# Altium schematic symbol library MCU_CPU.SchLib: 55 symbols (part 1 of 2)
Pins are listed as number, name and electrical type; pins without a type are passive.

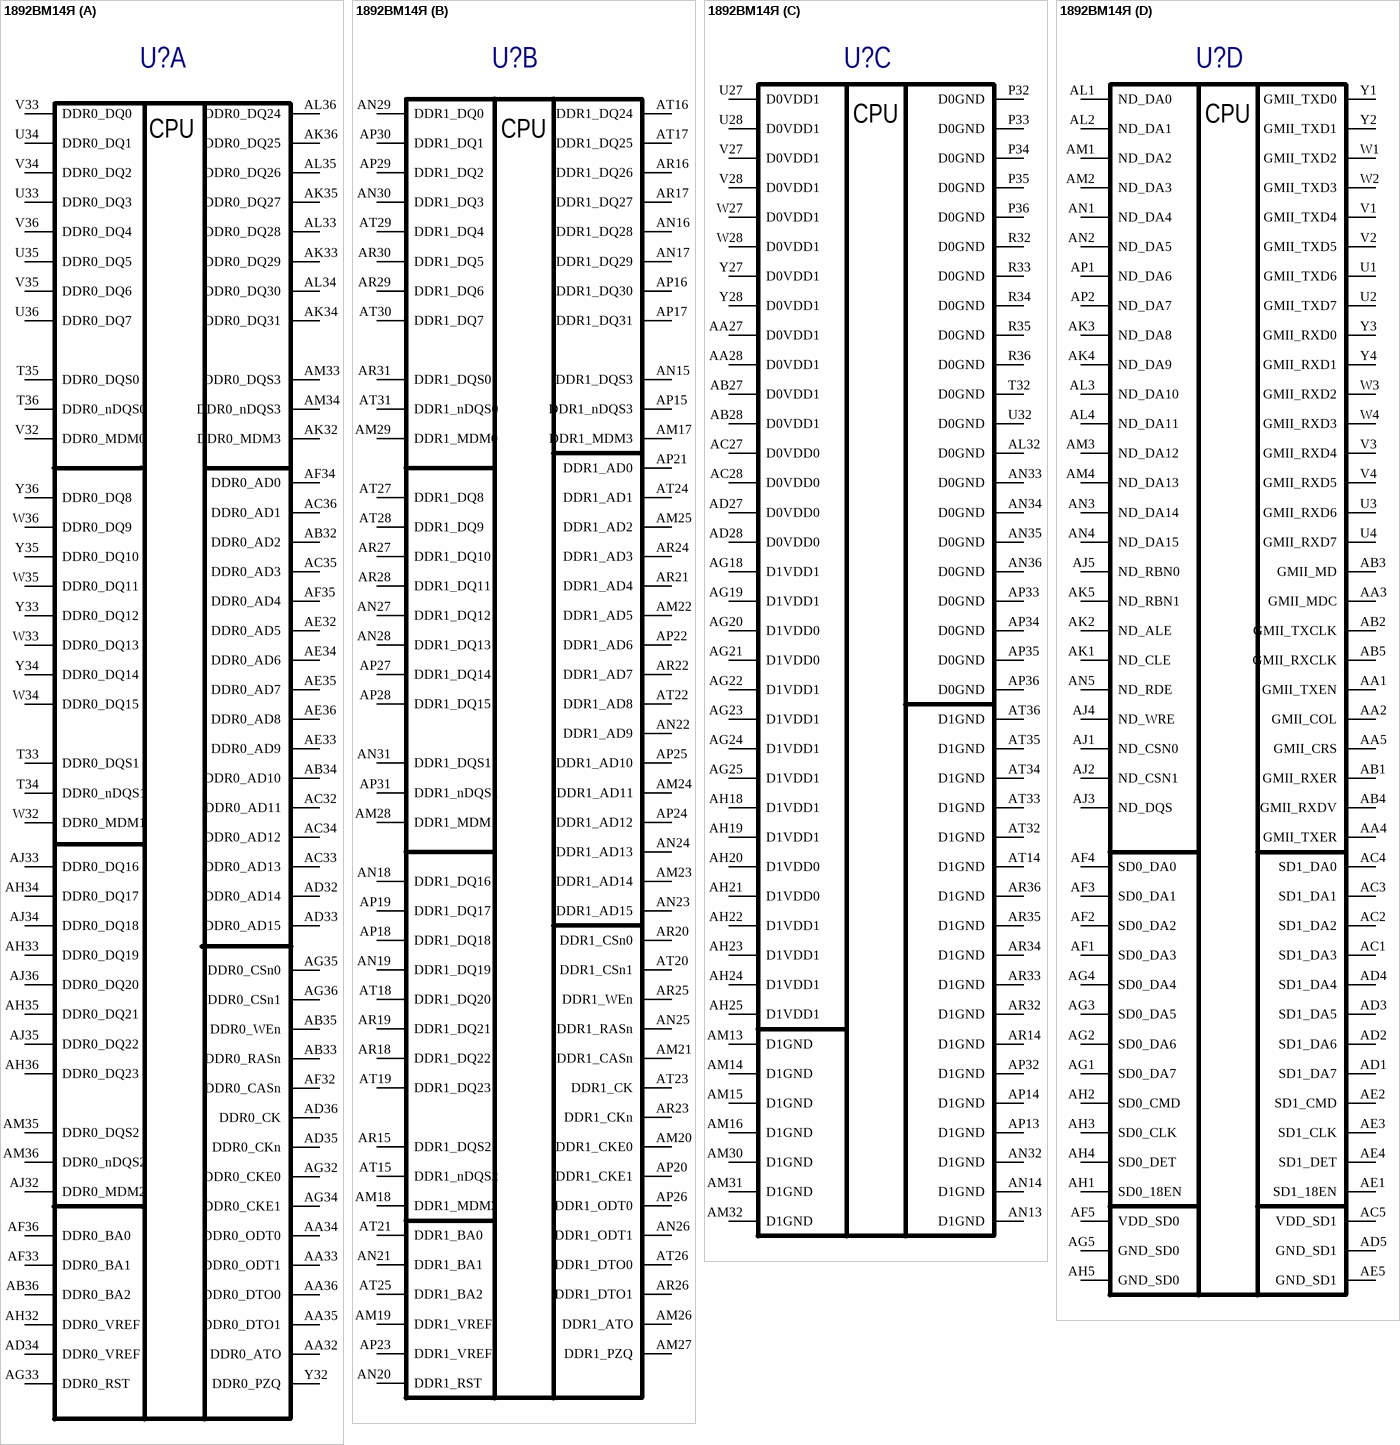
[diagram p0: symbol 1892ВМ14Я]

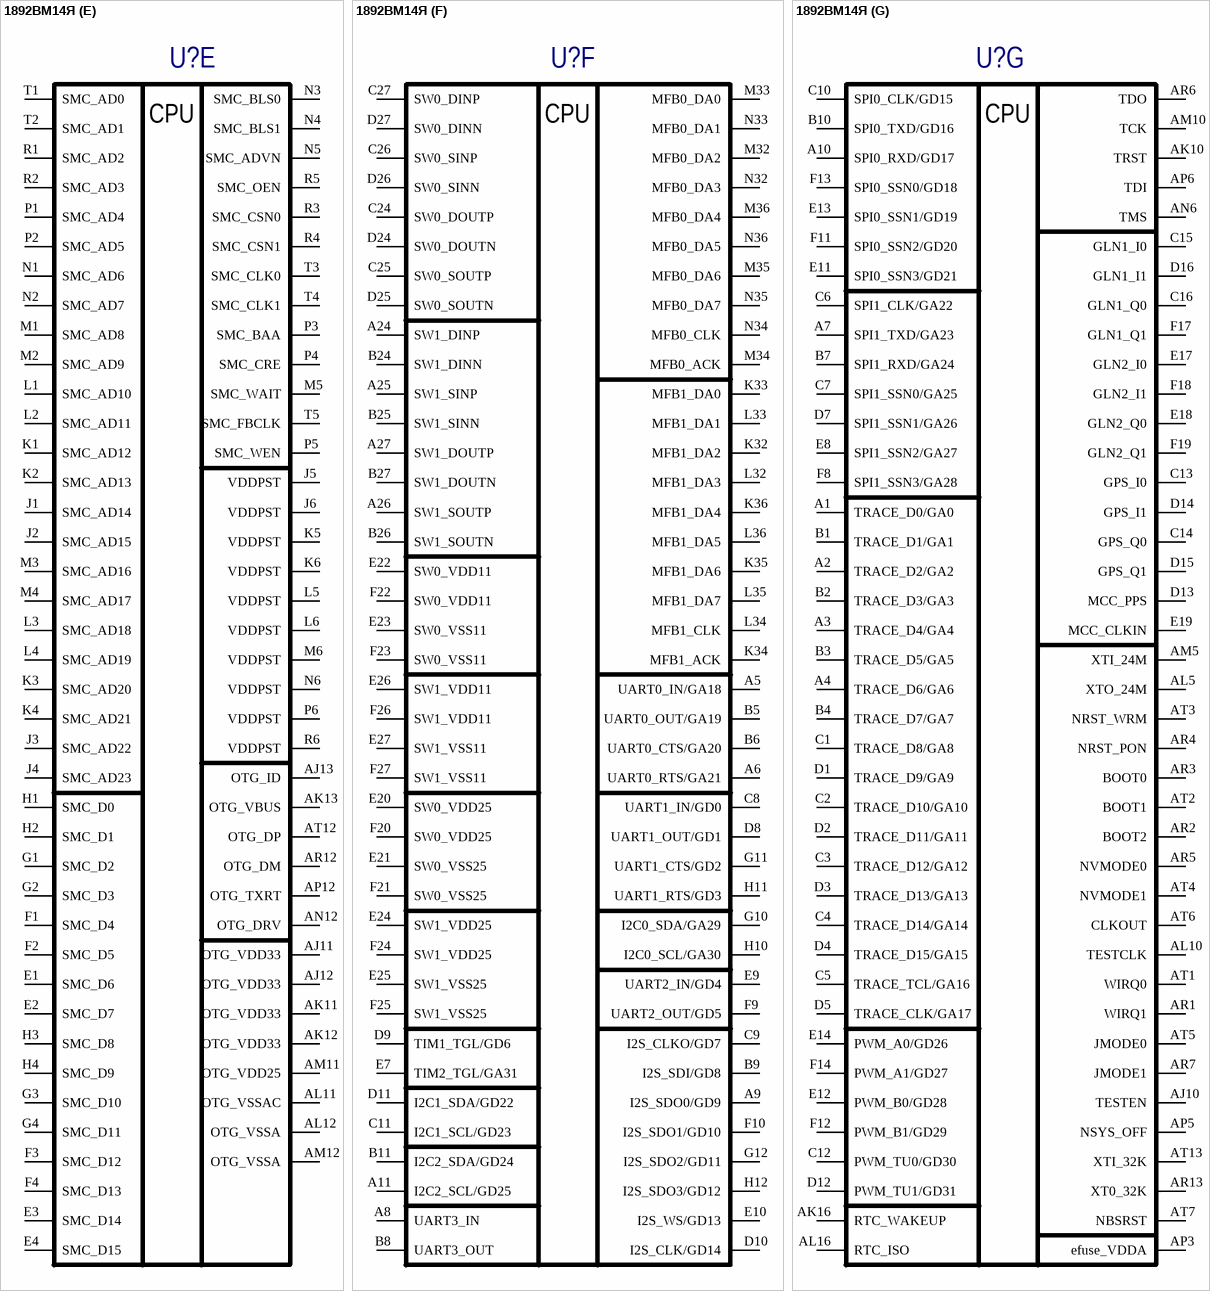
[diagram p1: symbol 1892ВМ14Я]

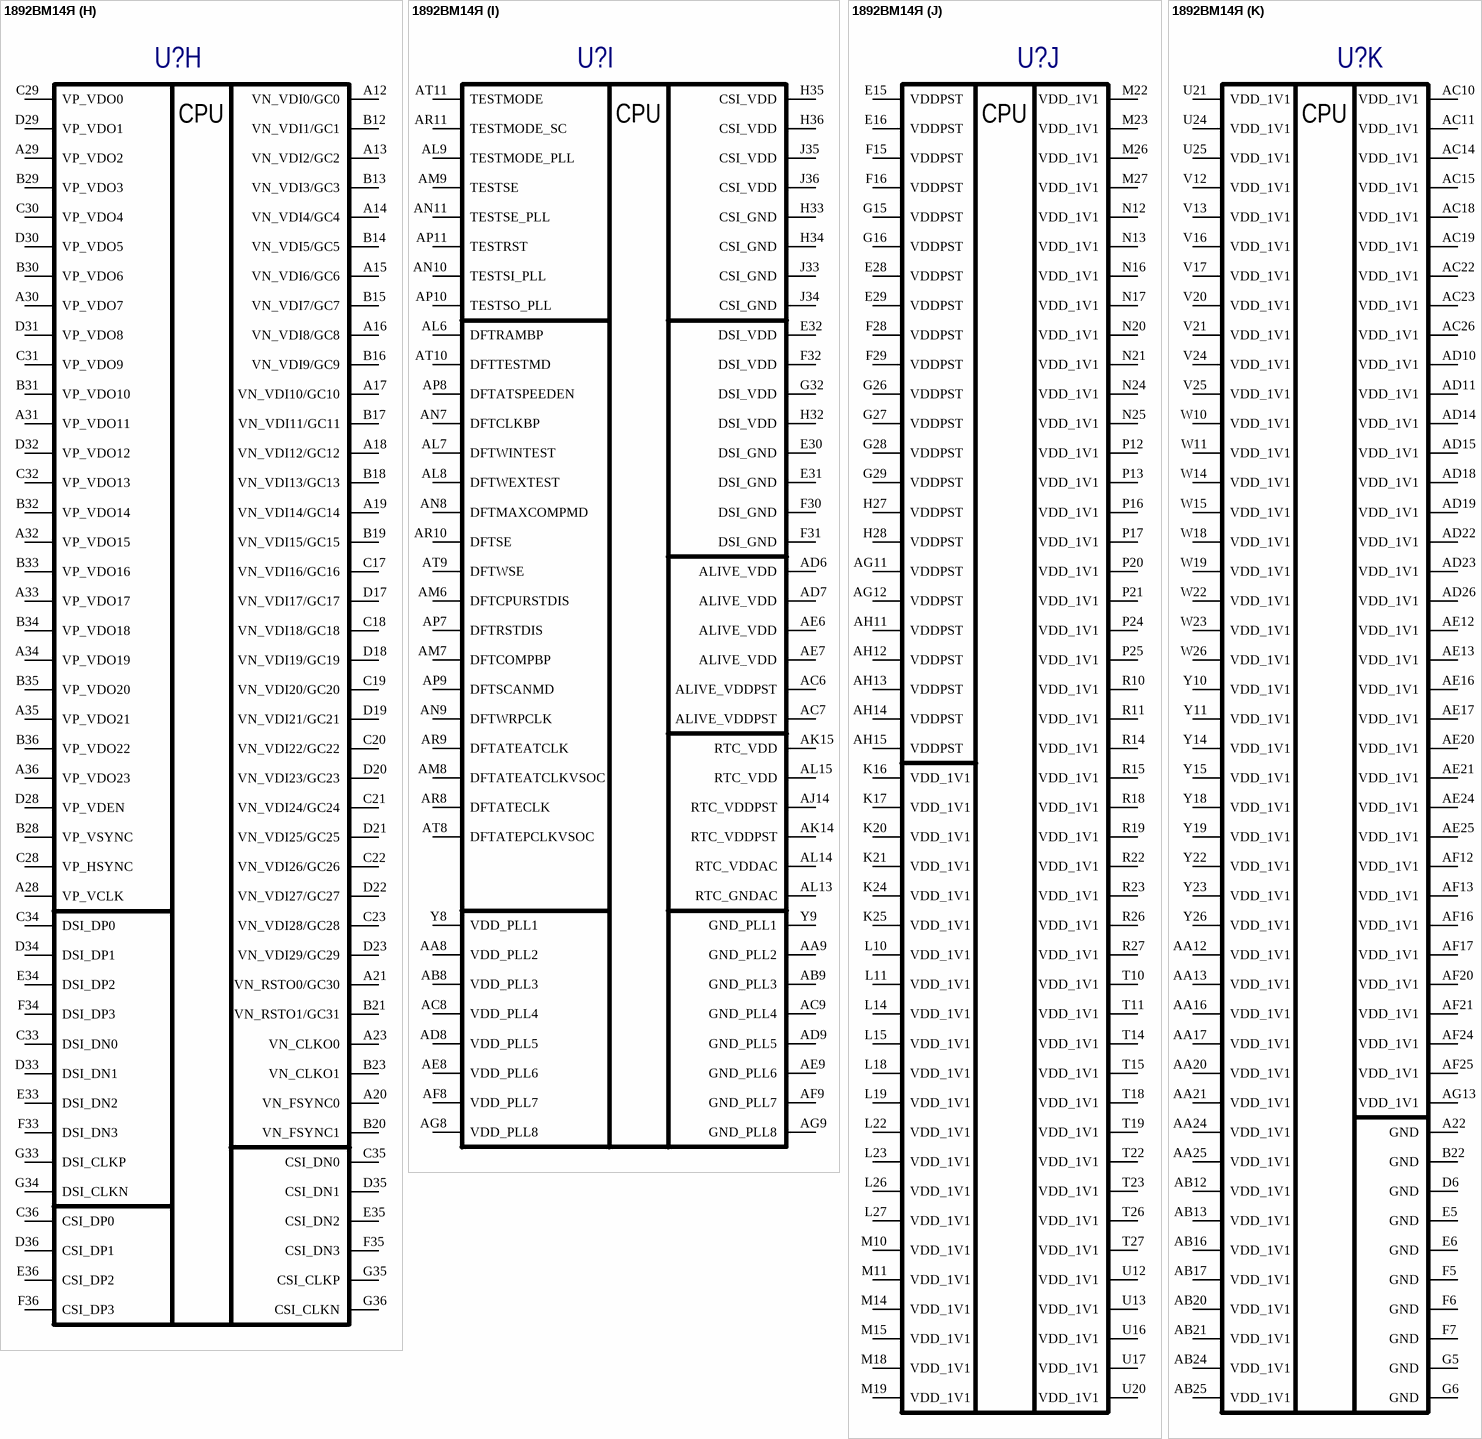
[diagram p2: symbol 1892ВМ14Я]

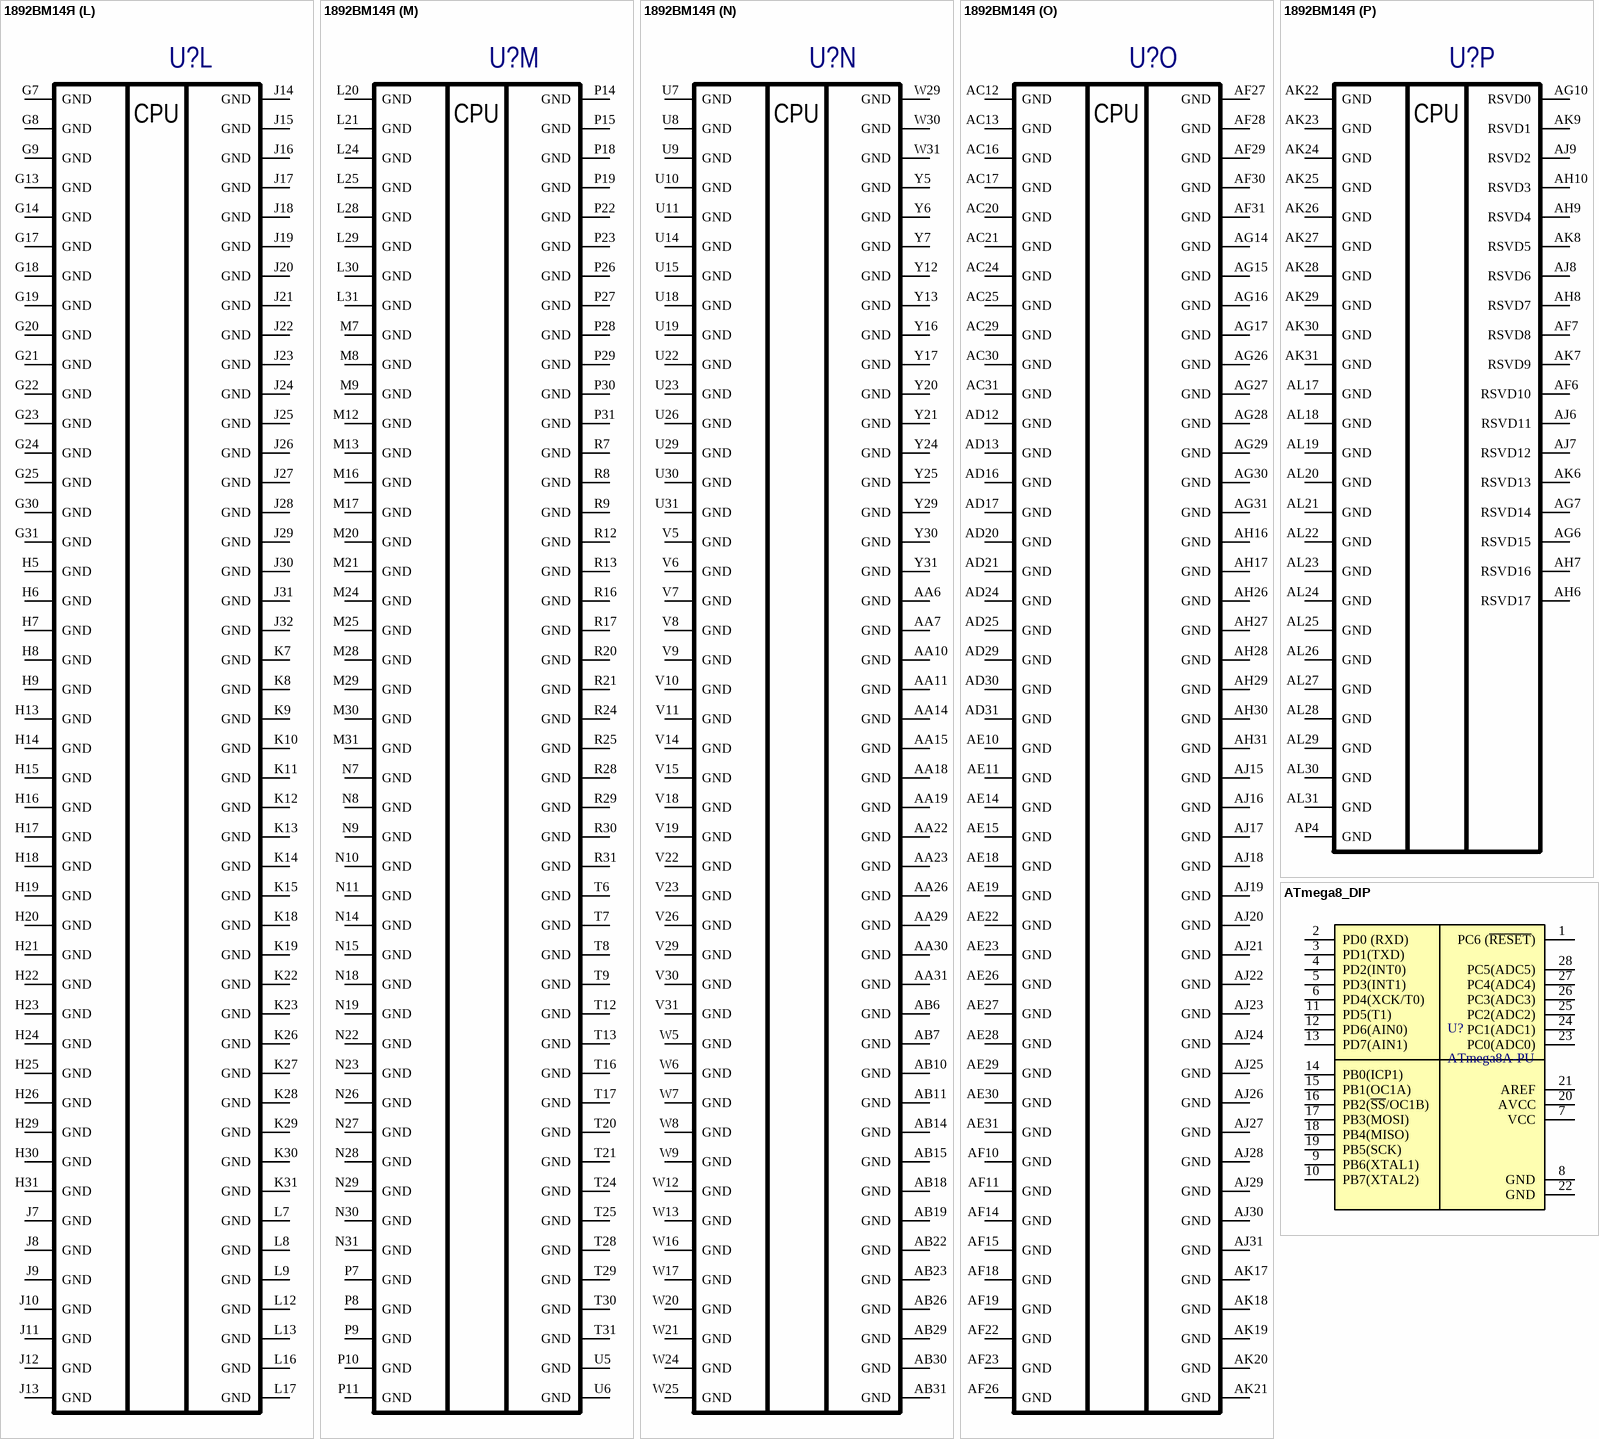
[diagram p3: symbols 1892ВМ14Я to ATmega8_DIP]

## 1892ВМ14Я
designator U?  (value not drawn)
Процессор; ComponentLink1Description: Datasheet
footprint BGA1296(36x36pin_19x19mm)
part A pins: AA32 DDR0_ATO "Byte Low Enable", AA33 DDR0_ODT1 "Byte Low Enable", AA34 DDR0_ODT0 "Byte Low Enable", AA35 DDR0_DTO1 "Byte Low Enable", AA36 DDR0_DTO0 "Byte Low Enable", AB32 DDR0_AD2, AB33 DDR0_RASn "Byte Low Enable", AB34 DDR0_AD10 "Output Enables", AB35 DDR0_WEn "Byte Low Enable", AB36 DDR0_BA2 "Byte Low Enable", AC32 DDR0_AD11 "Write Enable", AC33 DDR0_AD13 "Byte Low Enable", AC34 DDR0_AD12 "Byte High Enable", AC35 DDR0_AD3, AC36 DDR0_AD1, AD32 DDR0_AD14 "Byte Low Enable", AD33 DDR0_AD15 "Byte Low Enable", AD34 DDR0_VREF "Byte Low Enable", AD35 DDR0_CKn "Byte Low Enable", AD36 DDR0_CK "Byte Low Enable", AE32 DDR0_AD5, AE33 DDR0_AD9, AE34 DDR0_AD6, AE35 DDR0_AD7, AE36 DDR0_AD8, AF32 DDR0_CASn "Byte Low Enable", AF33 DDR0_BA1 "Byte Low Enable", AF34 DDR0_AD0, AF35 DDR0_AD4, AF36 DDR0_BA0 "Byte Low Enable", AG32 DDR0_CKE0 "Byte Low Enable", AG33 DDR0_RST "Byte Low Enable", AG34 DDR0_CKE1 "Byte Low Enable", AG35 DDR0_CSn0 "Byte Low Enable", AG36 DDR0_CSn1 "Byte Low Enable", AH32 DDR0_VREF "Byte Low Enable", AH33 DDR0_DQ19, AH34 DDR0_DQ17, AH35 DDR0_DQ21, AH36 DDR0_DQ23, AJ32 DDR0_MDM2 "Byte Low Enable", AJ33 DDR0_DQ16, AJ34 DDR0_DQ18, AJ35 DDR0_DQ22, AJ36 DDR0_DQ20, AK32 DDR0_MDM3 "Byte Low Enable", AK33 DDR0_DQ29, AK34 DDR0_DQ31, AK35 DDR0_DQ27, AK36 DDR0_DQ25, AL33 DDR0_DQ28, AL34 DDR0_DQ30, AL35 DDR0_DQ26, AL36 DDR0_DQ24, AM33 DDR0_DQS3, AM34 DDR0_nDQS3, AM35 DDR0_DQS2, AM36 DDR0_nDQS2, T33 DDR0_DQS1, T34 DDR0_nDQS1, T35 DDR0_DQS0, T36 DDR0_nDQS0, U33 DDR0_DQ3, U34 DDR0_DQ1, U35 DDR0_DQ5, U36 DDR0_DQ7, V32 DDR0_MDM0 "Byte Low Enable", V33 DDR0_DQ0, V34 DDR0_DQ2, V35 DDR0_DQ6, V36 DDR0_DQ4, W32 DDR0_MDM1 "Byte Low Enable", W33 DDR0_DQ13, W34 DDR0_DQ15, W35 DDR0_DQ11, W36 DDR0_DQ9, Y32 DDR0_PZQ "Byte Low Enable", Y33 DDR0_DQ12, Y34 DDR0_DQ14, Y35 DDR0_DQ10, Y36 DDR0_DQ8
part B pins: AM17 DDR1_MDM3 "Byte Low Enable", AM18 DDR1_MDM2 "Byte Low Enable", AM19 DDR1_VREF "Byte Low Enable", AM20 DDR1_CKE0 "Byte Low Enable", AM21 DDR1_CASn "Byte Low Enable", AM22 DDR1_AD5, AM23 DDR1_AD14 "Byte Low Enable", AM24 DDR1_AD11 "Write Enable", AM25 DDR1_AD2, AM26 DDR1_ATO "Byte Low Enable", AM27 DDR1_PZQ "Byte Low Enable", AM28 DDR1_MDM1 "Byte Low Enable", AM29 DDR1_MDM0 "Byte Low Enable", AN15 DDR1_DQS3, AN16 DDR1_DQ28, AN17 DDR1_DQ29, AN18 DDR1_DQ16, AN19 DDR1_DQ19, AN20 DDR1_RST "Byte Low Enable", AN21 DDR1_BA1 "Byte Low Enable", AN22 DDR1_AD9, AN23 DDR1_AD15 "Byte Low Enable", AN24 DDR1_AD13 "Byte Low Enable", AN25 DDR1_RASn "Byte Low Enable", AN26 DDR1_ODT1 "Byte Low Enable", AN27 DDR1_DQ12, AN28 DDR1_DQ13, AN29 DDR1_DQ0, AN30 DDR1_DQ3, AN31 DDR1_DQS1, AP15 DDR1_nDQS3, AP16 DDR1_DQ30, AP17 DDR1_DQ31, AP18 DDR1_DQ18, AP19 DDR1_DQ17, AP20 DDR1_CKE1 "Byte Low Enable", AP21 DDR1_AD0, AP22 DDR1_AD6, AP23 DDR1_VREF "Byte Low Enable", AP24 DDR1_AD12 "Byte High Enable", AP25 DDR1_AD10 "Output Enables", AP26 DDR1_ODT0 "Byte Low Enable", AP27 DDR1_DQ14, AP28 DDR1_DQ15, AP29 DDR1_DQ2, AP30 DDR1_DQ1, AP31 DDR1_nDQS1, AR15 DDR1_DQS2, AR16 DDR1_DQ26, AR17 DDR1_DQ27, AR18 DDR1_DQ22, AR19 DDR1_DQ21, AR20 DDR1_CSn0 "Byte Low Enable", AR21 DDR1_AD4, AR22 DDR1_AD7, AR23 DDR1_CKn "Byte Low Enable", AR24 DDR1_AD3, AR25 DDR1_WEn "Byte Low Enable", AR26 DDR1_DTO1 "Byte Low Enable", AR27 DDR1_DQ10, AR28 DDR1_DQ11, AR29 DDR1_DQ6, AR30 DDR1_DQ5, AR31 DDR1_DQS0, AT15 DDR1_nDQS2, AT16 DDR1_DQ24, AT17 DDR1_DQ25, AT18 DDR1_DQ20, AT19 DDR1_DQ23, AT20 DDR1_CSn1 "Byte Low Enable", AT21 DDR1_BA0 "Byte Low Enable", AT22 DDR1_AD8, AT23 DDR1_CK "Byte Low Enable", AT24 DDR1_AD1, AT25 DDR1_BA2 "Byte Low Enable", AT26 DDR1_DTO0 "Byte Low Enable", AT27 DDR1_DQ8, AT28 DDR1_DQ9, AT29 DDR1_DQ4, AT30 DDR1_DQ7, AT31 DDR1_nDQS0
part C pins: AA27 D0VDD1, AA28 D0VDD1, AB27 D0VDD1, AB28 D0VDD1, AC27 D0VDD0, AC28 D0VDD0, AD27 D0VDD0, AD28 D0VDD0, AG18 D1VDD1, AG19 D1VDD1, AG20 D1VDD0, AG21 D1VDD0, AG22 D1VDD1, AG23 D1VDD1, AG24 D1VDD1, AG25 D1VDD1, AH18 D1VDD1, AH19 D1VDD1, AH20 D1VDD0, AH21 D1VDD0, AH22 D1VDD1, AH23 D1VDD1, AH24 D1VDD1, AH25 D1VDD1, AL32 D0GND, AM13 D1GND, AM14 D1GND, AM15 D1GND, AM16 D1GND, AM30 D1GND, AM31 D1GND, AM32 D1GND, AN13 D1GND, AN14 D1GND, AN32 D1GND, AN33 D0GND, AN34 D0GND, AN35 D0GND, AN36 D0GND, AP13 D1GND, AP14 D1GND, AP32 D1GND, AP33 D0GND, AP34 D0GND, AP35 D0GND, AP36 D0GND, AR14 D1GND, AR32 D1GND, AR33 D1GND, AR34 D1GND, AR35 D1GND, AR36 D1GND, AT14 D1GND, AT32 D1GND, AT33 D1GND, AT34 D1GND, AT35 D1GND, AT36 D1GND, P32 D0GND, P33 D0GND, P34 D0GND, P35 D0GND, P36 D0GND, R32 D0GND, R33 D0GND, R34 D0GND, R35 D0GND, R36 D0GND, T32 D0GND, U27 D0VDD1, U28 D0VDD1, U32 D0GND, V27 D0VDD1, V28 D0VDD1, W27 D0VDD1, W28 D0VDD1, Y27 D0VDD1, Y28 D0VDD1
part D pins: AA1 GMII_TXEN, AA2 GMII_COL, AA3 GMII_MDC, AA4 GMII_TXER, AA5 GMII_CRS, AB1 GMII_RXER, AB2 GMII_TXCLK, AB3 GMII_MD, AB4 GMII_RXDV, AB5 GMII_RXCLK, AC1 SD1_DA3, AC2 SD1_DA2, AC3 SD1_DA1, AC4 SD1_DA0, AC5 VDD_SD1, AD1 SD1_DA7, AD2 SD1_DA6, AD3 SD1_DA5, AD4 SD1_DA4, AD5 GND_SD1, AE1 SD1_18EN, AE2 SD1_CMD, AE3 SD1_CLK, AE4 SD1_DET, AE5 GND_SD1, AF1 SD0_DA3, AF2 SD0_DA2, AF3 SD0_DA1, AF4 SD0_DA0, AF5 VDD_SD0, AG1 SD0_DA7, AG2 SD0_DA6, AG3 SD0_DA5, AG4 SD0_DA4, AG5 GND_SD0, AH1 SD0_18EN, AH2 SD0_CMD, AH3 SD0_CLK, AH4 SD0_DET, AH5 GND_SD0, AJ1 ND_CSN0, AJ2 ND_CSN1, AJ3 ND_DQS, AJ4 ND_WRE, AJ5 ND_RBN0, AK1 ND_CLE, AK2 ND_ALE, AK3 ND_DA8, AK4 ND_DA9, AK5 ND_RBN1, AL1 ND_DA0, AL2 ND_DA1, AL3 ND_DA10, AL4 ND_DA11, AM1 ND_DA2, AM2 ND_DA3, AM3 ND_DA12, AM4 ND_DA13, AN1 ND_DA4, AN2 ND_DA5, AN3 ND_DA14, AN4 ND_DA15, AN5 ND_RDE, AP1 ND_DA6, AP2 ND_DA7, U1 GMII_TXD6, U2 GMII_TXD7, U3 GMII_RXD6, U4 GMII_RXD7, V1 GMII_TXD4, V2 GMII_TXD5, V3 GMII_RXD4, V4 GMII_RXD5, W1 GMII_TXD2, W2 GMII_TXD3, W3 GMII_RXD2, W4 GMII_RXD3, Y1 GMII_TXD0, Y2 GMII_TXD1, Y3 GMII_RXD0, Y4 GMII_RXD1
part E pins: AJ11 OTG_VDD33, AJ12 OTG_VDD33, AJ13 OTG_ID, AK11 OTG_VDD33, AK12 OTG_VDD33, AK13 OTG_VBUS, AL11 OTG_VSSAC, AL12 OTG_VSSA, AM11 OTG_VDD25, AM12 OTG_VSSA, AN12 OTG_DRV, AP12 OTG_TXRT, AR12 OTG_DM, AT12 OTG_DP, E1 SMC_D6, E2 SMC_D7, E3 SMC_D14, E4 SMC_D15, F1 SMC_D4, F2 SMC_D5, F3 SMC_D12, F4 SMC_D13, G1 SMC_D2, G2 SMC_D3, G3 SMC_D10, G4 SMC_D11, H1 SMC_D0, H2 SMC_D1, H3 SMC_D8, H4 SMC_D9, J1 SMC_AD14, J2 SMC_AD15, J3 SMC_AD22, J4 SMC_AD23, J5 VDDPST, J6 VDDPST, K1 SMC_AD12, K2 SMC_AD13, K3 SMC_AD20, K4 SMC_AD21, K5 VDDPST, K6 VDDPST, L1 SMC_AD10, L2 SMC_AD11, L3 SMC_AD18, L4 SMC_AD19, L5 VDDPST, L6 VDDPST, M1 SMC_AD8, M2 SMC_AD9, M3 SMC_AD16, M4 SMC_AD17, M5 SMC_WAIT, M6 VDDPST, N1 SMC_AD6, N2 SMC_AD7, N3 SMC_BLS0, N4 SMC_BLS1, N5 SMC_ADVN, N6 VDDPST, P1 SMC_AD4, P2 SMC_AD5, P3 SMC_BAA, P4 SMC_CRE, P5 SMC_WEN, P6 VDDPST, R1 SMC_AD2, R2 SMC_AD3, R3 SMC_CSN0, R4 SMC_CSN1, R5 SMC_OEN, R6 VDDPST, T1 SMC_AD0, T2 SMC_AD1, T3 SMC_CLK0, T4 SMC_CLK1, T5 SMC_FBCLK
part F pins: A5 UART0_IN/GA18, A6 UART0_RTS/GA21, A8 UART3_IN, A9 I2S_SDO0/GD9, A11 I2C2_SCL/GD25, A24 SW1_DINP, A25 SW1_SINP, A26 SW1_SOUTP, A27 SW1_DOUTP, B5 UART0_OUT/GA19, B6 UART0_CTS/GA20, B8 UART3_OUT, B9 I2S_SDI/GD8, B11 I2C2_SDA/GD24, B24 SW1_DINN, B25 SW1_SINN, B26 SW1_SOUTN, B27 SW1_DOUTN, C8 UART1_IN/GD0, C9 I2S_CLKO/GD7, C11 I2C1_SCL/GD23, C24 SW0_DOUTP, C25 SW0_SOUTP, C26 SW0_SINP, C27 SW0_DINP, D8 UART1_OUT/GD1, D9 TIM1_TGL/GD6, D10 I2S_CLK/GD14, D11 I2C1_SDA/GD22, D24 SW0_DOUTN, D25 SW0_SOUTN, D26 SW0_SINN, D27 SW0_DINN, E7 TIM2_TGL/GA31, E9 UART2_IN/GD4, E10 I2S_WS/GD13, E20 SW0_VDD25, E21 SW0_VSS25, E22 SW0_VDD11, E23 SW0_VSS11, E24 SW1_VDD25, E25 SW1_VSS25, E26 SW1_VDD11, E27 SW1_VSS11, F9 UART2_OUT/GD5, F10 I2S_SDO1/GD10, F20 SW0_VDD25, F21 SW0_VSS25, F22 SW0_VDD11, F23 SW0_VSS11, F24 SW1_VDD25, F25 SW1_VSS25, F26 SW1_VDD11, F27 SW1_VSS11, G10 I2C0_SDA/GA29, G11 UART1_CTS/GD2, G12 I2S_SDO2/GD11, H10 I2C0_SCL/GA30, H11 UART1_RTS/GD3, H12 I2S_SDO3/GD12, K32 MFB1_DA2, K33 MFB1_DA0, K34 MFB1_ACK, K35 MFB1_DA6, K36 MFB1_DA4, L32 MFB1_DA3, L33 MFB1_DA1, L34 MFB1_CLK, L35 MFB1_DA7, L36 MFB1_DA5, M32 MFB0_DA2, M33 MFB0_DA0, M34 MFB0_ACK, M35 MFB0_DA6, M36 MFB0_DA4, N32 MFB0_DA3, N33 MFB0_DA1, N34 MFB0_CLK, N35 MFB0_DA7, N36 MFB0_DA5
part G pins: A1 TRACE_D0/GA0, A2 TRACE_D2/GA2, A3 TRACE_D4/GA4, A4 TRACE_D6/GA6, A7 SPI1_TXD/GA23, A10 SPI0_RXD/GD17, AJ10 TESTEN, AK10 TRST, AK16 RTC_WAKEUP, AL5 XTO_24M, AL10 TESTCLK, AL16 RTC_ISO, AM5 XTI_24M, AM10 TCK, AN6 TMS, AP3 efuse_VDDA, AP5 NSYS_OFF, AP6 TDI, AR1 WIRQ1, AR2 BOOT2, AR3 BOOT0, AR4 NRST_PON, AR5 NVMODE0, AR6 TDO, AR7 JMODE1, AR13 XT0_32K, AT1 WIRQ0, AT2 BOOT1, AT3 NRST_WRM, AT4 NVMODE1, AT5 JMODE0, AT6 CLKOUT, AT7 NBSRST, AT13 XTI_32K, B1 TRACE_D1/GA1, B2 TRACE_D3/GA3, B3 TRACE_D5/GA5, B4 TRACE_D7/GA7, B7 SPI1_RXD/GA24, B10 SPI0_TXD/GD16, C1 TRACE_D8/GA8, C2 TRACE_D10/GA10, C3 TRACE_D12/GA12, C4 TRACE_D14/GA14, C5 TRACE_TCL/GA16, C6 SPI1_CLK/GA22, C7 SPI1_SSN0/GA25, C10 SPI0_CLK/GD15, C12 PWM_TU0/GD30, C13 GPS_I0, C14 GPS_Q0, C15 GLN1_I0, C16 GLN1_Q0, D1 TRACE_D9/GA9, D2 TRACE_D11/GA11, D3 TRACE_D13/GA13, D4 TRACE_D15/GA15, D5 TRACE_CLK/GA17, D7 SPI1_SSN1/GA26, D12 PWM_TU1/GD31, D13 MCC_PPS, D14 GPS_I1, D15 GPS_Q1, D16 GLN1_I1, E8 SPI1_SSN2/GA27, E11 SPI0_SSN3/GD21, E12 PWM_B0/GD28, E13 SPI0_SSN1/GD19, E14 PWM_A0/GD26, E17 GLN2_I0, E18 GLN2_Q0, E19 MCC_CLKIN, F8 SPI1_SSN3/GA28, F11 SPI0_SSN2/GD20, F12 PWM_B1/GD29, F13 SPI0_SSN0/GD18, F14 PWM_A1/GD27, F17 GLN1_Q1, F18 GLN2_I1, F19 GLN2_Q1
part H pins: A12 VN_VDI0/GC0, A13 VN_VDI2/GC2, A14 VN_VDI4/GC4, A15 VN_VDI6/GC6, A16 VN_VDI8/GC8, A17 VN_VDI10/GC10, A18 VN_VDI12/GC12, A19 VN_VDI14/GC14, A20 VN_FSYNC0, A21 VN_RSTO0/GC30, A23 VN_CLKO0, A28 VP_VCLK, A29 VP_VDO2, A30 VP_VDO7, A31 VP_VDO11, A32 VP_VDO15, A33 VP_VDO17, A34 VP_VDO19, A35 VP_VDO21, A36 VP_VDO23, B12 VN_VDI1/GC1, B13 VN_VDI3/GC3, B14 VN_VDI5/GC5, B15 VN_VDI7/GC7, B16 VN_VDI9/GC9, B17 VN_VDI11/GC11, B18 VN_VDI13/GC13, B19 VN_VDI15/GC15, B20 VN_FSYNC1, B21 VN_RSTO1/GC31, B23 VN_CLKO1, B28 VP_VSYNC, B29 VP_VDO3, B30 VP_VDO6, B31 VP_VDO10, B32 VP_VDO14, B33 VP_VDO16, B34 VP_VDO18, B35 VP_VDO20, B36 VP_VDO22, C17 VN_VDI16/GC16, C18 VN_VDI18/GC18, C19 VN_VDI20/GC20, C20 VN_VDI22/GC22, C21 VN_VDI24/GC24, C22 VN_VDI26/GC26, C23 VN_VDI28/GC28, C28 VP_HSYNC, C29 VP_VDO0, C30 VP_VDO4, C31 VP_VDO9, C32 VP_VDO13, C33 DSI_DN0, C34 DSI_DP0, C35 CSI_DN0, C36 CSI_DP0, D17 VN_VDI17/GC17, D18 VN_VDI19/GC19, D19 VN_VDI21/GC21, D20 VN_VDI23/GC23, D21 VN_VDI25/GC25, D22 VN_VDI27/GC27, D23 VN_VDI29/GC29, D28 VP_VDEN, D29 VP_VDO1, D30 VP_VDO5, D31 VP_VDO8, D32 VP_VDO12, D33 DSI_DN1, D34 DSI_DP1, D35 CSI_DN1, D36 CSI_DP1, E33 DSI_DN2, E34 DSI_DP2, E35 CSI_DN2, E36 CSI_DP2, F33 DSI_DN3, F34 DSI_DP3, F35 CSI_DN3, F36 CSI_DP3, G33 DSI_CLKP, G34 DSI_CLKN, G35 CSI_CLKP, G36 CSI_CLKN
part I pins: AA8 VDD_PLL2, AA9 GND_PLL2, AB8 VDD_PLL3, AB9 GND_PLL3, AC6 ALIVE_VDDPST, AC7 ALIVE_VDDPST, AC8 VDD_PLL4, AC9 GND_PLL4, AD6 ALIVE_VDD, AD7 ALIVE_VDD, AD8 VDD_PLL5, AD9 GND_PLL5, AE6 ALIVE_VDD, AE7 ALIVE_VDD, AE8 VDD_PLL6, AE9 GND_PLL6, AF8 VDD_PLL7, AF9 GND_PLL7, AG8 VDD_PLL8, AG9 GND_PLL8, AJ14 RTC_VDDPST, AK14 RTC_VDDPST, AK15 RTC_VDD, AL6 DFTRAMBP, AL7 DFTWINTEST, AL8 DFTWEXTEST, AL9 TESTMODE_PLL, AL13 RTC_GNDAC, AL14 RTC_VDDAC, AL15 RTC_VDD, AM6 DFTCPURSTDIS, AM7 DFTCOMPBP, AM8 DFTATEATCLKVSOC, AM9 TESTSE, AN7 DFTCLKBP, AN8 DFTMAXCOMPMD, AN9 DFTWRPCLK, AN10 TESTSI_PLL, AN11 TESTSE_PLL, AP7 DFTRSTDIS, AP8 DFTATSPEEDEN, AP9 DFTSCANMD, AP10 TESTSO_PLL, AP11 TESTRST, AR8 DFTATECLK, AR9 DFTATEATCLK, AR10 DFTSE, AR11 TESTMODE_SC, AT8 DFTATEPCLKVSOC, AT9 DFTWSE, AT10 DFTTESTMD, AT11 TESTMODE, E30 DSI_GND, E31 DSI_GND, E32 DSI_VDD, F30 DSI_GND, F31 DSI_GND, F32 DSI_VDD, G32 DSI_VDD, H32 DSI_VDD, H33 CSI_GND, H34 CSI_GND, H35 CSI_VDD, H36 CSI_VDD, J33 CSI_GND, J34 CSI_GND, J35 CSI_VDD, J36 CSI_VDD, Y8 VDD_PLL1, Y9 GND_PLL1
part J pins: AG11 VDDPST, AG12 VDDPST, AH11 VDDPST, AH12 VDDPST, AH13 VDDPST, AH14 VDDPST, AH15 VDDPST, E15 VDDPST, E16 VDDPST, E28 VDDPST, E29 VDDPST, F15 VDDPST, F16 VDDPST, F28 VDDPST, F29 VDDPST, G15 VDDPST, G16 VDDPST, G26 VDDPST, G27 VDDPST, G28 VDDPST, G29 VDDPST, H27 VDDPST, H28 VDDPST, K16 VDD_1V1, K17 VDD_1V1, K20 VDD_1V1, K21 VDD_1V1, K24 VDD_1V1, K25 VDD_1V1, L10 VDD_1V1, L11 VDD_1V1, L14 VDD_1V1, L15 VDD_1V1, L18 VDD_1V1, L19 VDD_1V1, L22 VDD_1V1, L23 VDD_1V1, L26 VDD_1V1, L27 VDD_1V1, M10 VDD_1V1, M11 VDD_1V1, M14 VDD_1V1, M15 VDD_1V1, M18 VDD_1V1, M19 VDD_1V1, M22 VDD_1V1, M23 VDD_1V1, M26 VDD_1V1, M27 VDD_1V1, N12 VDD_1V1, N13 VDD_1V1, N16 VDD_1V1, N17 VDD_1V1, N20 VDD_1V1, N21 VDD_1V1, N24 VDD_1V1, N25 VDD_1V1, P12 VDD_1V1, P13 VDD_1V1, P16 VDD_1V1, P17 VDD_1V1, P20 VDD_1V1, P21 VDD_1V1, P24 VDD_1V1, P25 VDD_1V1, R10 VDD_1V1, R11 VDD_1V1, R14 VDD_1V1, R15 VDD_1V1, R18 VDD_1V1, R19 VDD_1V1, R22 VDD_1V1, R23 VDD_1V1, R26 VDD_1V1, R27 VDD_1V1, T10 VDD_1V1, T11 VDD_1V1, T14 VDD_1V1, T15 VDD_1V1, T18 VDD_1V1, T19 VDD_1V1, T22 VDD_1V1, T23 VDD_1V1, T26 VDD_1V1, T27 VDD_1V1, U12 VDD_1V1, U13 VDD_1V1, U16 VDD_1V1, U17 VDD_1V1, U20 VDD_1V1
part K pins: A22 GND, AA12 VDD_1V1, AA13 VDD_1V1, AA16 VDD_1V1, AA17 VDD_1V1, AA20 VDD_1V1, AA21 VDD_1V1, AA24 VDD_1V1, AA25 VDD_1V1, AB12 VDD_1V1, AB13 VDD_1V1, AB16 VDD_1V1, AB17 VDD_1V1, AB20 VDD_1V1, AB21 VDD_1V1, AB24 VDD_1V1, AB25 VDD_1V1, AC10 VDD_1V1, AC11 VDD_1V1, AC14 VDD_1V1, AC15 VDD_1V1, AC18 VDD_1V1, AC19 VDD_1V1, AC22 VDD_1V1, AC23 VDD_1V1, AC26 VDD_1V1, AD10 VDD_1V1, AD11 VDD_1V1, AD14 VDD_1V1, AD15 VDD_1V1, AD18 VDD_1V1, AD19 VDD_1V1, AD22 VDD_1V1, AD23 VDD_1V1, AD26 VDD_1V1, AE12 VDD_1V1, AE13 VDD_1V1, AE16 VDD_1V1, AE17 VDD_1V1, AE20 VDD_1V1, AE21 VDD_1V1, AE24 VDD_1V1, AE25 VDD_1V1, AF12 VDD_1V1, AF13 VDD_1V1, AF16 VDD_1V1, AF17 VDD_1V1, AF20 VDD_1V1, AF21 VDD_1V1, AF24 VDD_1V1, AF25 VDD_1V1, AG13 VDD_1V1, B22 GND, D6 GND, E5 GND, E6 GND, F5 GND, F6 GND, F7 GND, G5 GND, G6 GND, U21 VDD_1V1, U24 VDD_1V1, U25 VDD_1V1, V12 VDD_1V1, V13 VDD_1V1, V16 VDD_1V1, V17 VDD_1V1, V20 VDD_1V1, V21 VDD_1V1, V24 VDD_1V1, V25 VDD_1V1, W10 VDD_1V1, W11 VDD_1V1, W14 VDD_1V1, W15 VDD_1V1, W18 VDD_1V1, W19 VDD_1V1, W22 VDD_1V1, W23 VDD_1V1, W26 VDD_1V1, Y10 VDD_1V1, Y11 VDD_1V1, Y14 VDD_1V1, Y15 VDD_1V1, Y18 VDD_1V1, Y19 VDD_1V1, Y22 VDD_1V1, Y23 VDD_1V1, Y26 VDD_1V1
part L pins: G7 GND, G8 GND, G9 GND, G13 GND, G14 GND, G17 GND, G18 GND, G19 GND, G20 GND, G21 GND, G22 GND, G23 GND, G24 GND, G25 GND, G30 GND, G31 GND, H5 GND, H6 GND, H7 GND, H8 GND, H9 GND, H13 GND, H14 GND, H15 GND, H16 GND, H17 GND, H18 GND, H19 GND, H20 GND, H21 GND, H22 GND, H23 GND, H24 GND, H25 GND, H26 GND, H29 GND, H30 GND, H31 GND, J7 GND, J8 GND, J9 GND, J10 GND, J11 GND, J12 GND, J13 GND, J14 GND, J15 GND, J16 GND, J17 GND, J18 GND, J19 GND, J20 GND, J21 GND, J22 GND, J23 GND, J24 GND, J25 GND, J26 GND, J27 GND, J28 GND, J29 GND, J30 GND, J31 GND, J32 GND, K7 GND, K8 GND, K9 GND, K10 GND, K11 GND, K12 GND, K13 GND, K14 GND, K15 GND, K18 GND, K19 GND, K22 GND, K23 GND, K26 GND, K27 GND, K28 GND, K29 GND, K30 GND, K31 GND, L7 GND, L8 GND, L9 GND, L12 GND, L13 GND, L16 GND, L17 GND
part M pins: L20 GND, L21 GND, L24 GND, L25 GND, L28 GND, L29 GND, L30 GND, L31 GND, M7 GND, M8 GND, M9 GND, M12 GND, M13 GND, M16 GND, M17 GND, M20 GND, M21 GND, M24 GND, M25 GND, M28 GND, M29 GND, M30 GND, M31 GND, N7 GND, N8 GND, N9 GND, N10 GND, N11 GND, N14 GND, N15 GND, N18 GND, N19 GND, N22 GND, N23 GND, N26 GND, N27 GND, N28 GND, N29 GND, N30 GND, N31 GND, P7 GND, P8 GND, P9 GND, P10 GND, P11 GND, P14 GND, P15 GND, P18 GND, P19 GND, P22 GND, P23 GND, P26 GND, P27 GND, P28 GND, P29 GND, P30 GND, P31 GND, R7 GND, R8 GND, R9 GND, R12 GND, R13 GND, R16 GND, R17 GND, R20 GND, R21 GND, R24 GND, R25 GND, R28 GND, R29 GND, R30 GND, R31 GND, T6 GND, T7 GND, T8 GND, T9 GND, T12 GND, T13 GND, T16 GND, T17 GND, T20 GND, T21 GND, T24 GND, T25 GND, T28 GND, T29 GND, T30 GND, T31 GND, U5 GND, U6 GND
part N pins: AA6 GND, AA7 GND, AA10 GND, AA11 GND, AA14 GND, AA15 GND, AA18 GND, AA19 GND, AA22 GND, AA23 GND, AA26 GND, AA29 GND, AA30 GND, AA31 GND, AB6 GND, AB7 GND, AB10 GND, AB11 GND, AB14 GND, AB15 GND, AB18 GND, AB19 GND, AB22 GND, AB23 GND, AB26 GND, AB29 GND, AB30 GND, AB31 GND, U7 GND, U8 GND, U9 GND, U10 GND, U11 GND, U14 GND, U15 GND, U18 GND, U19 GND, U22 GND, U23 GND, U26 GND, U29 GND, U30 GND, U31 GND, V5 GND, V6 GND, V7 GND, V8 GND, V9 GND, V10 GND, V11 GND, V14 GND, V15 GND, V18 GND, V19 GND, V22 GND, V23 GND, V26 GND, V29 GND, V30 GND, V31 GND, W5 GND, W6 GND, W7 GND, W8 GND, W9 GND, W12 GND, W13 GND, W16 GND, W17 GND, W20 GND, W21 GND, W24 GND, W25 GND, W29 GND, W30 GND, W31 GND, Y5 GND, Y6 GND, Y7 GND, Y12 GND, Y13 GND, Y16 GND, Y17 GND, Y20 GND, Y21 GND, Y24 GND, Y25 GND, Y29 GND, Y30 GND, Y31 GND
part O pins: AC12 GND, AC13 GND, AC16 GND, AC17 GND, AC20 GND, AC21 GND, AC24 GND, AC25 GND, AC29 GND, AC30 GND, AC31 GND, AD12 GND, AD13 GND, AD16 GND, AD17 GND, AD20 GND, AD21 GND, AD24 GND, AD25 GND, AD29 GND, AD30 GND, AD31 GND, AE10 GND, AE11 GND, AE14 GND, AE15 GND, AE18 GND, AE19 GND, AE22 GND, AE23 GND, AE26 GND, AE27 GND, AE28 GND, AE29 GND, AE30 GND, AE31 GND, AF10 GND, AF11 GND, AF14 GND, AF15 GND, AF18 GND, AF19 GND, AF22 GND, AF23 GND, AF26 GND, AF27 GND, AF28 GND, AF29 GND, AF30 GND, AF31 GND, AG14 GND, AG15 GND, AG16 GND, AG17 GND, AG26 GND, AG27 GND, AG28 GND, AG29 GND, AG30 GND, AG31 GND, AH16 GND, AH17 GND, AH26 GND, AH27 GND, AH28 GND, AH29 GND, AH30 GND, AH31 GND, AJ15 GND, AJ16 GND, AJ17 GND, AJ18 GND, AJ19 GND, AJ20 GND, AJ21 GND, AJ22 GND, AJ23 GND, AJ24 GND, AJ25 GND, AJ26 GND, AJ27 GND, AJ28 GND, AJ29 GND, AJ30 GND, AJ31 GND, AK17 GND, AK18 GND, AK19 GND, AK20 GND, AK21 GND
part P pins: AF6 RSVD10, AF7 RSVD8, AG6 RSVD15, AG7 RSVD14, AG10 RSVD0, AH6 RSVD17, AH7 RSVD16, AH8 RSVD7, AH9 RSVD4, AH10 RSVD3, AJ6 RSVD11, AJ7 RSVD12, AJ8 RSVD6, AJ9 RSVD2, AK6 RSVD13, AK7 RSVD9, AK8 RSVD5, AK9 RSVD1, AK22 GND, AK23 GND, AK24 GND, AK25 GND, AK26 GND, AK27 GND, AK28 GND, AK29 GND, AK30 GND, AK31 GND, AL17 GND, AL18 GND, AL19 GND, AL20 GND, AL21 GND, AL22 GND, AL23 GND, AL24 GND, AL25 GND, AL26 GND, AL27 GND, AL28 GND, AL29 GND, AL30 GND, AL31 GND, AP4 GND
part A text: CPU
part B text: CPU
part C text: CPU
part D text: CPU
part E text: CPU
part F text: CPU
part G text: CPU
part H text: CPU
part I text: CPU
part J text: CPU
part K text: CPU
part L text: CPU
part M text: CPU
part N text: CPU
part O text: CPU
part P text: CPU

## ATmega8_DIP
designator U?, comment ATmega8A-PU
MEGA; DefaultOrder: ATmega8A-PU; Order: *
footprint DIP-28 (Footprint not found)
pins: 1 PC6 (~{RESET}), 2 PD0 (RXD), 3 PD1(TXD), 4 PD2(INT0), 5 PD3(INT1), 6 PD4(XCK/T0), 7 VCC, 8 GND, 9 PB6(XTAL1), 10 PB7(XTAL2), 11 PD5(T1), 12 PD6(AIN0), 13 PD7(AIN1), 14 PB0(ICP1), 15 PB1(OC1A), 16 PB2(~{SS}/OC1B), 17 PB3(MOSI), 18 PB4(MISO), 19 PB5(SCK), 20 AVCC, 21 AREF, 22 GND, 23 PC0(ADC0), 24 PC1(ADC1), 25 PC2(ADC2), 26 PC3(ADC3), 27 PC4(ADC4), 28 PC5(ADC5)

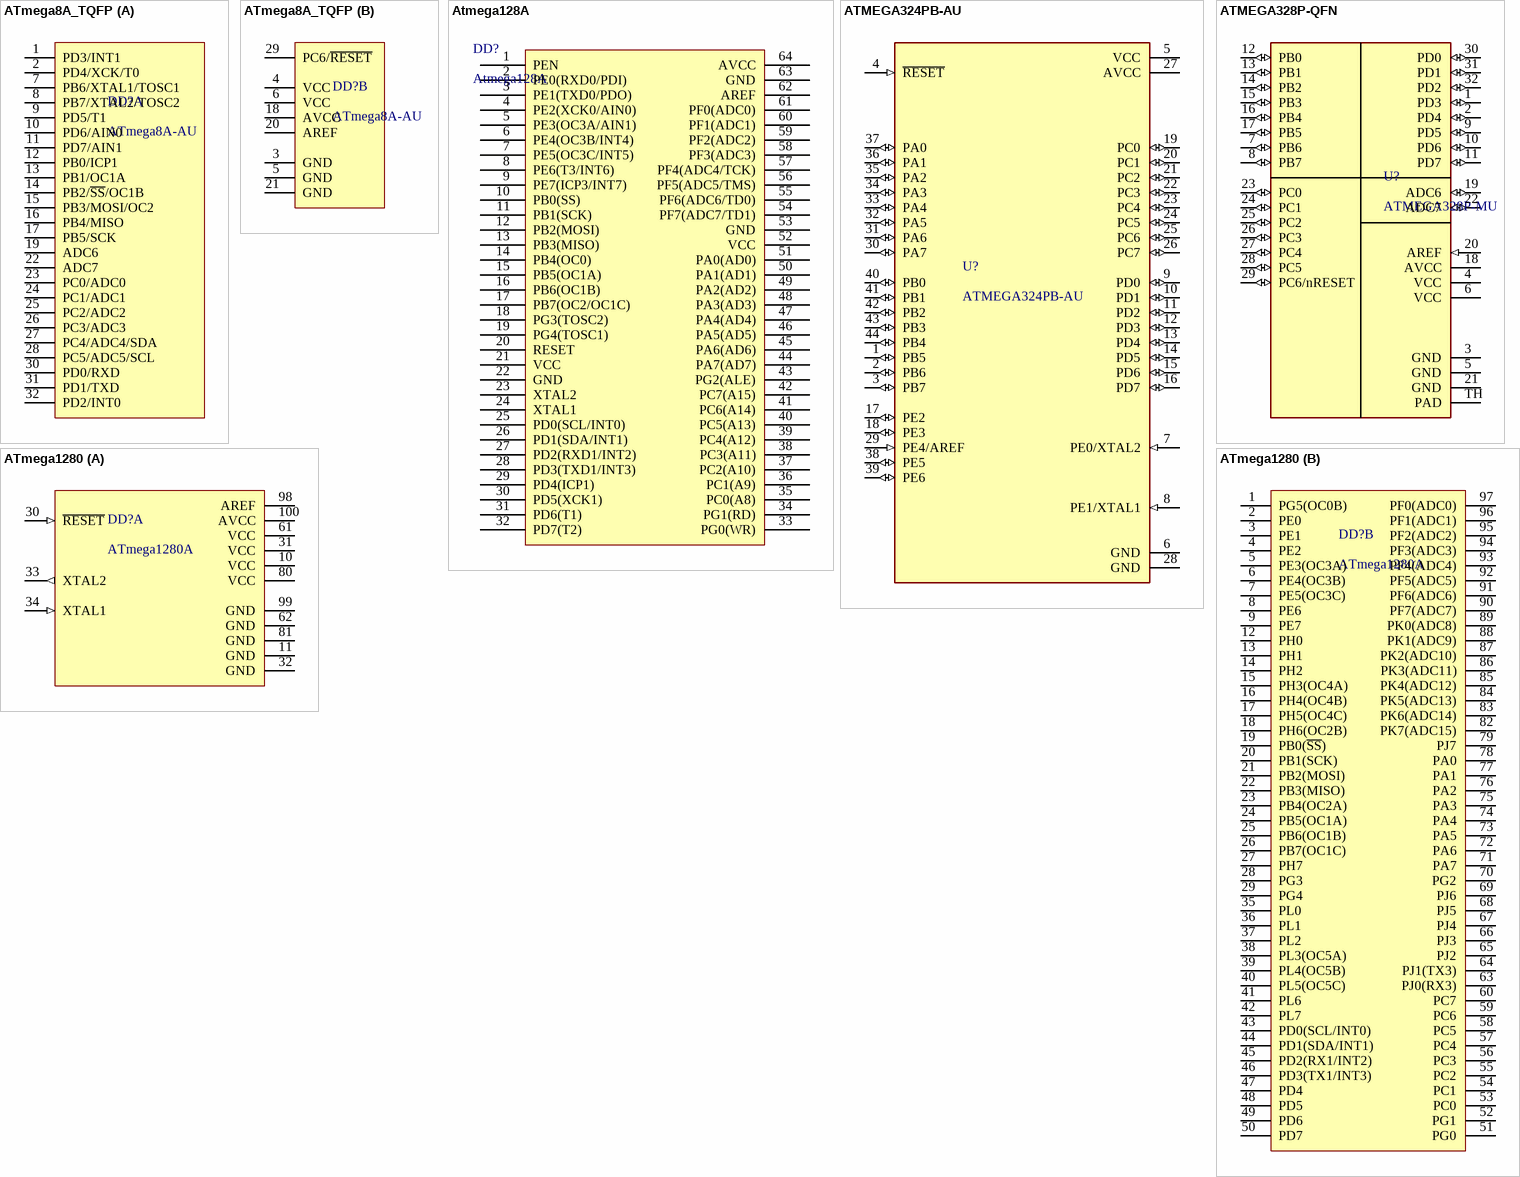
[diagram p4: symbols ATmega8A_TQFP to ATmega1280]

## ATmega8A_TQFP
designator DD?, comment ATmega8A-AU
MEGA; DefaultOrder: ATmega8A-AU; Order: *
footprint TQFP-32 (Footprint not found)
part A pins: 1 PD3/INT1, 2 PD4/XCK/T0, 7 PB6/XTAL1/TOSC1, 8 PB7/XTAL2/TOSC2, 9 PD5/T1, 10 PD6/AIN0, 11 PD7/AIN1, 12 PB0/ICP1, 13 PB1/OC1A, 14 PB2/~{SS}/OC1B, 15 PB3/MOSI/OC2, 16 PB4/MISO, 17 PB5/SCK, 19 ADC6, 22 ADC7, 23 PC0/ADC0, 24 PC1/ADC1, 25 PC2/ADC2, 26 PC3/ADC3, 27 PC4/ADC4/SDA, 28 PC5/ADC5/SCL, 30 PD0/RXD, 31 PD1/TXD, 32 PD2/INT0
part B pins: 3 GND, 4 VCC, 5 GND, 6 VCC, 18 AVCC, 20 AREF, 21 GND, 29 PC6/~{RESET}

## Atmega128A
designator DD?
!proverka, AVR 8-bit MCU
pins: 1 PEN, 2 PE0(RXD0/PDI), 3 PE1(TXD0/PDO), 4 PE2(XCK0/AIN0), 5 PE3(OC3A/AIN1), 6 PE4(OC3B/INT4), 7 PE5(OC3C/INT5), 8 PE6(T3/INT6), 9 PE7(ICP3/INT7), 10 PB0(SS), 11 PB1(SCK), 12 PB2(MOSI), 13 PB3(MISO), 14 PB4(OC0), 15 PB5(OC1A), 16 PB6(OC1B), 17 PB7(OC2/OC1C), 18 PG3(TOSC2), 19 PG4(TOSC1), 20 RESET, 21 VCC, 22 GND, 23 XTAL2, 24 XTAL1, 25 PD0(SCL/INT0), 26 PD1(SDA/INT1), 27 PD2(RXD1/INT2), 28 PD3(TXD1/INT3), 29 PD4(ICP1), 30 PD5(XCK1), 31 PD6(T1), 32 PD7(T2), 33 PG0(WR), 34 PG1(RD), 35 PC0(A8), 36 PC1(A9), 37 PC2(A10), 38 PC3(A11), 39 PC4(A12), 40 PC5(A13), 41 PC6(A14), 42 PC7(A15), 43 PG2(ALE), 44 PA7(AD7), 45 PA6(AD6), 46 PA5(AD5), 47 PA4(AD4), 48 PA3(AD3), 49 PA2(AD2), 50 PA1(AD1), 51 PA0(AD0), 52 VCC, 53 GND, 54 PF7(ADC7/TD1), 55 PF6(ADC6/TD0), 56 PF5(ADC5/TMS), 57 PF4(ADC4/TCK), 58 PF3(ADC3), 59 PF2(ADC2), 60 PF1(ADC1), 61 PF0(ADC0), 62 AREF, 63 GND, 64 AVCC

## ATMEGA324PB-AU
designator U?
MEGA
footprint TQFP-44
pins: 1 PB5 (io), 2 PB6 (io), 3 PB7 (io), 4 ~{RESET} (in), 5 VCC (power), 6 GND (power), 7 PE0/XTAL2 (in), 8 PE1/XTAL1 (in), 9 PD0 (io), 10 PD1 (io), 11 PD2 (io), 12 PD3 (io), 13 PD4 (io), 14 PD5 (io), 15 PD6 (io), 16 PD7 (io), 17 PE2 (io), 18 PE3 (io), 19 PC0 (io), 20 PC1 (io), 21 PC2 (io), 22 PC3 (io), 23 PC4 (io), 24 PC5 (io), 25 PC6 (io), 26 PC7 (io), 27 AVCC (power), 28 GND (power), 29 PE4/AREF (in), 30 PA7 (io), 31 PA6 (io), 32 PA5 (io), 33 PA4 (io), 34 PA3 (io), 35 PA2 (io), 36 PA1 (io), 37 PA0 (io), 38 PE5 (io), 39 PE6 (io), 40 PB0 (io), 41 PB1 (io), 42 PB2 (io), 43 PB3 (io), 44 PB4 (io)

## ATMEGA328P-QFN
designator U?, comment ATMEGA328P-MU
MEGA; MF: Microchip; Value: *; Package: VQFN-32 Microchip; Price: None; MP: ATMEGA328P-MU; Availability: Good; SnapEDA_Link: https://www.snapeda.com/parts/ATMEGA328P-MU/Microchip/view-part/649548/?ref=snap; Check_prices: https://www.snapeda.com/parts/ATMEGA328P-MU/Microchip/view-part/649548/?ref=eda; Purchase-URL: https://pricing.snapeda.com/search/part/ATMEGA328P-MU/?ref=eda
footprint QFN-32
pins: 1 PD3 (io), 2 PD4 (io), 3 GND (power), 4 VCC (power), 5 GND (power), 6 VCC (power), 7 PB6 (io), 8 PB7 (io), 9 PD5 (io), 10 PD6 (io), 11 PD7 (io), 12 PB0 (io), 13 PB1 (io), 14 PB2 (io), 15 PB3 (io), 16 PB4 (io), 17 PB5 (io), 18 AVCC (power), 19 ADC6 (io), 20 AREF (in), 21 GND (power), 22 ADC7 (io), 23 PC0 (io), 24 PC1 (io), 25 PC2 (io), 26 PC3 (io), 27 PC4 (io), 28 PC5 (io), 29 PC6/nRESET (io), 30 PD0 (io), 31 PD1 (io), 32 PD2 (io), TH PAD (power)

## ATmega1280
designator DD?, comment ATmega1280A
MEGA; DefaultOrder: ATmega1280-16AU; Order: *
footprint TQFP-100 (Footprint not found)
part A pins: 10 VCC (power), 11 GND (power), 30 ~{RESET} (in), 31 VCC (power), 32 GND (power), 33 XTAL2 (out), 34 XTAL1 (in), 61 VCC (power), 62 GND (power), 80 VCC (power), 81 GND (power), 98 AREF (power), 99 GND (power), 100 AVCC (power)
part B pins: 1 PG5(OC0B), 2 PE0, 3 PE1, 4 PE2, 5 PE3(OC3A), 6 PE4(OC3B), 7 PE5(OC3C), 8 PE6, 9 PE7, 12 PH0, 13 PH1, 14 PH2, 15 PH3(OC4A), 16 PH4(OC4B), 17 PH5(OC4C), 18 PH6(OC2B), 19 PB0(~{SS}), 20 PB1(SCK), 21 PB2(MOSI), 22 PB3(MISO), 23 PB4(OC2A), 24 PB5(OC1A), 25 PB6(OC1B), 26 PB7(OC1C), 27 PH7, 28 PG3, 29 PG4, 35 PL0, 36 PL1, 37 PL2, 38 PL3(OC5A), 39 PL4(OC5B), 40 PL5(OC5C), 41 PL6, 42 PL7, 43 PD0(SCL/INT0), 44 PD1(SDA/INT1), 45 PD2(RX1/INT2), 46 PD3(TX1/INT3), 47 PD4, 48 PD5, 49 PD6, 50 PD7, 51 PG0, 52 PG1, 53 PC0, 54 PC1, 55 PC2, 56 PC3, 57 PC4, 58 PC5, 59 PC6, 60 PC7, 63 PJ0(RX3), 64 PJ1(TX3), 65 PJ2, 66 PJ3, 67 PJ4, 68 PJ5, 69 PJ6, 70 PG2, 71 PA7, 72 PA6, 73 PA5, 74 PA4, 75 PA3, 76 PA2, 77 PA1, 78 PA0, 79 PJ7, 82 PK7(ADC15), 83 PK6(ADC14), 84 PK5(ADC13), 85 PK4(ADC12), 86 PK3(ADC11), 87 PK2(ADC10), 88 PK1(ADC9), 89 PK0(ADC8), 90 PF7(ADC7), 91 PF6(ADC6), 92 PF5(ADC5), 93 PF4(ADC4), 94 PF3(ADC3), 95 PF2(ADC2), 96 PF1(ADC1), 97 PF0(ADC0)

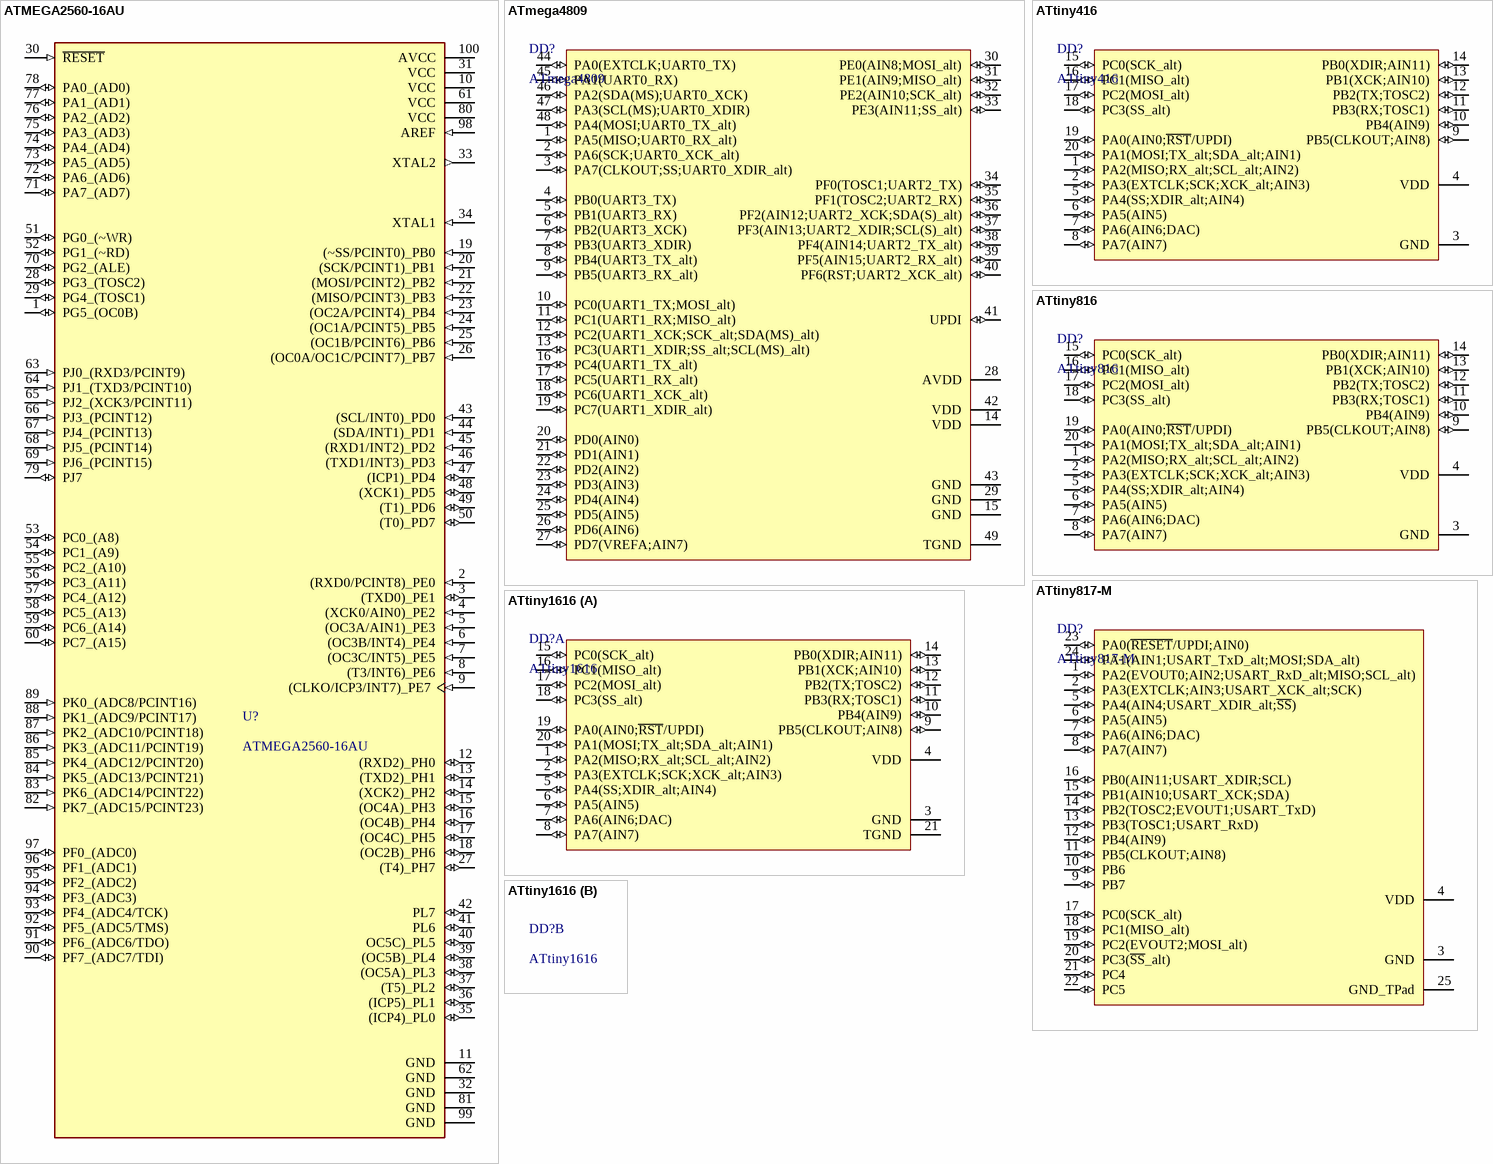
[diagram p5: symbols ATMEGA2560-16AU to ATtiny1616]

## ATMEGA2560-16AU
designator U?
MEGA; IsSMT: NoSMT; Order: ATMega2560-16AU; LCSC Part #: *; BuyLink1: *
footprint LQFP-100 (SQFP, 100-Leads, Body 16,7x16,7mm (max), Pitch 0,50mm, IPC Medium Density)
pins: 1 PG5_(OC0B) (io), 2 (RXD0/PCINT8)_PE0 (in), 3 (TXD0)_PE1 (io), 4 (XCK0/AIN0)_PE2 (in), 5 (OC3A/AIN1)_PE3 (in), 6 (OC3B/INT4)_PE4 (in), 7 (OC3C/INT5)_PE5 (in), 8 (T3/INT6)_PE6 (in), 9 (CLKO/ICP3/INT7)_PE7 (in), 10 VCC (power), 11 GND (power), 12 (RXD2)_PH0 (io), 13 (TXD2)_PH1 (io), 14 (XCK2)_PH2 (io), 15 (OC4A)_PH3 (io), 16 (OC4B)_PH4 (io), 17 (OC4C)_PH5 (io), 18 (OC2B)_PH6 (io), 19 (~SS/PCINT0)_PB0 (in), 20 (SCK/PCINT1)_PB1 (in), 21 (MOSI/PCINT2)_PB2 (in), 22 (MISO/PCINT3)_PB3 (in), 23 (OC2A/PCINT4)_PB4 (in), 24 (OC1A/PCINT5)_PB5 (in), 25 (OC1B/PCINT6)_PB6 (in), 26 (OC0A/OC1C/PCINT7)_PB7 (in), 27 (T4)_PH7 (io), 28 PG3_(TOSC2) (io), 29 PG4_(TOSC1) (io), 30 ~{RESET} (in), 31 VCC (power), 32 GND (power), 33 XTAL2 (out), 34 XTAL1 (in), 35 (ICP4)_PL0 (io), 36 (ICP5)_PL1 (io), 37 (T5)_PL2 (io), 38 (OC5A)_PL3 (io), 39 (OC5B)_PL4 (io), 40 OC5C)_PL5 (io), 41 PL6 (io), 42 PL7 (io), 43 (SCL/INT0)_PD0 (in), 44 (SDA/INT1)_PD1 (in), 45 (RXD1/INT2)_PD2 (in), 46 (TXD1/INT3)_PD3 (in), 47 (ICP1)_PD4 (io), 48 (XCK1)_PD5 (io), 49 (T1)_PD6 (io), 50 (T0)_PD7 (io), 51 PG0_(~WR) (io), 52 PG1_(~RD) (io), 53 PC0_(A8) (io), 54 PC1_(A9) (io), 55 PC2_(A10) (io), 56 PC3_(A11) (io), 57 PC4_(A12) (io), 58 PC5_(A13) (io), 59 PC6_(A14) (io), 60 PC7_(A15) (io), 61 VCC (power), 62 GND (power), 63 PJ0_(RXD3/PCINT9) (in), 64 PJ1_(TXD3/PCINT10) (in), 65 PJ2_(XCK3/PCINT11) (in), 66 PJ3_(PCINT12) (in), 67 PJ4_(PCINT13) (in), 68 PJ5_(PCINT14) (in), 69 PJ6_(PCINT15) (in), 70 PG2_(ALE) (io), 71 PA7_(AD7) (io), 72 PA6_(AD6) (io), 73 PA5_(AD5) (io), 74 PA4_(AD4) (io), 75 PA3_(AD3) (io), 76 PA2_(AD2) (io), 77 PA1_(AD1) (io), 78 PA0_(AD0) (io), 79 PJ7 (io), 80 VCC (power), 81 GND (power), 82 PK7_(ADC15/PCINT23) (in), 83 PK6_(ADC14/PCINT22) (in), 84 PK5_(ADC13/PCINT21) (in), 85 PK4_(ADC12/PCINT20) (in), 86 PK3_(ADC11/PCINT19) (in), 87 PK2_(ADC10/PCINT18) (in), 88 PK1_(ADC9/PCINT17) (in), 89 PK0_(ADC8/PCINT16) (in), 90 PF7_(ADC7/TDI) (io), 91 PF6_(ADC6/TDO) (io), 92 PF5_(ADC5/TMS) (io), 93 PF4_(ADC4/TCK) (io), 94 PF3_(ADC3) (io), 95 PF2_(ADC2) (io), 96 PF1_(ADC1) (io), 97 PF0_(ADC0) (io), 98 AREF (in), 99 GND (power), 100 AVCC (power)

## ATmega4809
designator DD?
MEGA
footprint QFN-48M (QFN, 48-Leads, Body 6,00x6,00mm, Pitch 0,40mm, Thermal Pad 4,60x4,60mm, IPC Low Density)
pins: 1 PA5(MISO;UART0_RX_alt) (io), 2 PA6(SCK;UART0_XCK_alt) (io), 3 PA7(CLKOUT;SS;UART0_XDIR_alt) (io), 4 PB0(UART3_TX) (io), 5 PB1(UART3_RX) (io), 6 PB2(UART3_XCK) (io), 7 PB3(UART3_XDIR) (io), 8 PB4(UART3_TX_alt) (io), 9 PB5(UART3_RX_alt) (io), 10 PC0(UART1_TX;MOSI_alt) (io), 11 PC1(UART1_RX;MISO_alt) (io), 12 PC2(UART1_XCK;SCK_alt;SDA(MS)_alt) (io), 13 PC3(UART1_XDIR;SS_alt;SCL(MS)_alt) (io), 14 VDD (power), 15 GND (power), 16 PC4(UART1_TX_alt) (io), 17 PC5(UART1_RX_alt) (io), 18 PC6(UART1_XCK_alt) (io), 19 PC7(UART1_XDIR_alt) (io), 20 PD0(AIN0) (io), 21 PD1(AIN1) (io), 22 PD2(AIN2) (io), 23 PD3(AIN3) (io), 24 PD4(AIN4) (io), 25 PD5(AIN5) (io), 26 PD6(AIN6) (io), 27 PD7(VREFA;AIN7) (io), 28 AVDD (power), 29 GND (power), 30 PE0(AIN8;MOSI_alt) (io), 31 PE1(AIN9;MISO_alt) (io), 32 PE2(AIN10;SCK_alt) (io), 33 PE3(AIN11;SS_alt) (io), 34 PF0(TOSC1;UART2_TX) (io), 35 PF1(TOSC2;UART2_RX) (io), 36 PF2(AIN12;UART2_XCK;SDA(S)_alt) (io), 37 PF3(AIN13;UART2_XDIR;SCL(S)_alt) (io), 38 PF4(AIN14;UART2_TX_alt) (io), 39 PF5(AIN15;UART2_RX_alt) (io), 40 PF6(RST;UART2_XCK_alt) (io), 41 UPDI (io), 42 VDD (power), 43 GND (power), 44 PA0(EXTCLK;UART0_TX) (io), 45 PA1(UART0_RX) (io), 46 PA2(SDA(MS);UART0_XCK) (io), 47 PA3(SCL(MS);UART0_XDIR) (io), 48 PA4(MOSI;UART0_TX_alt) (io), 49 TGND (power)

## ATtiny416
designator DD?
TINY; Order: ATtiny416*
pins: 1 PA2(MISO;RX_alt;SCL_alt;AIN2) (io), 2 PA3(EXTCLK;SCK;XCK_alt;AIN3) (io), 3 GND (power), 4 VDD (power), 5 PA4(SS;XDIR_alt;AIN4) (io), 6 PA5(AIN5) (io), 7 PA6(AIN6;DAC) (io), 8 PA7(AIN7) (io), 9 PB5(CLKOUT;AIN8) (io), 10 PB4(AIN9) (io), 11 PB3(RX;TOSC1) (io), 12 PB2(TX;TOSC2) (io), 13 PB1(XCK;AIN10) (io), 14 PB0(XDIR;AIN11) (io), 15 PC0(SCK_alt) (io), 16 PC1(MISO_alt) (io), 17 PC2(MOSI_alt) (io), 18 PC3(SS_alt) (io), 19 PA0(AIN0;~{RST}/UPDI) (io), 20 PA1(MOSI;TX_alt;SDA_alt;AIN1) (io)

## ATtiny816
designator DD?
TINY; Order: ATtiny816*
pins: 1 PA2(MISO;RX_alt;SCL_alt;AIN2) (io), 2 PA3(EXTCLK;SCK;XCK_alt;AIN3) (io), 3 GND (power), 4 VDD (power), 5 PA4(SS;XDIR_alt;AIN4) (io), 6 PA5(AIN5) (io), 7 PA6(AIN6;DAC) (io), 8 PA7(AIN7) (io), 9 PB5(CLKOUT;AIN8) (io), 10 PB4(AIN9) (io), 11 PB3(RX;TOSC1) (io), 12 PB2(TX;TOSC2) (io), 13 PB1(XCK;AIN10) (io), 14 PB0(XDIR;AIN11) (io), 15 PC0(SCK_alt) (io), 16 PC1(MISO_alt) (io), 17 PC2(MOSI_alt) (io), 18 PC3(SS_alt) (io), 19 PA0(AIN0;~{RST}/UPDI) (io), 20 PA1(MOSI;TX_alt;SDA_alt;AIN1) (io)

## ATtiny817-M
designator DD?
TINY; Order: *
pins: 1 PA2(EVOUT0;AIN2;USART_RxD_alt;MISO;SCL_alt) (io), 2 PA3(EXTCLK;AIN3;USART_XCK_alt;SCK) (io), 3 GND (power), 4 VDD (power), 5 PA4(AIN4;USART_XDIR_alt;~{SS}) (io), 6 PA5(AIN5) (io), 7 PA6(AIN6;DAC) (io), 8 PA7(AIN7) (io), 9 PB7 (io), 10 PB6 (io), 11 PB5(CLKOUT;AIN8) (io), 12 PB4(AIN9) (io), 13 PB3(TOSC1;USART_RxD) (io), 14 PB2(TOSC2;EVOUT1;USART_TxD) (io), 15 PB1(AIN10;USART_XCK;SDA) (io), 16 PB0(AIN11;USART_XDIR;SCL) (io), 17 PC0(SCK_alt) (io), 18 PC1(MISO_alt) (io), 19 PC2(EVOUT2;MOSI_alt) (io), 20 PC3(~{SS}_alt) (io), 21 PC4 (io), 22 PC5 (io), 23 PA0(~{RESET}/UPDI;AIN0) (io), 24 PA1(AIN1;USART_TxD_alt;MOSI;SDA_alt) (io), 25 GND_TPad (power)

## ATtiny1616
designator DD?
TINY; Order: ATtiny1616*
footprint QFN-20M (QFN, 20-Leads, Body 3,00x3,00mm, Pitch 0,40mm, Thermal Pad 1,70x1,70mm, IPC Low Density)
part A pins: 1 PA2(MISO;RX_alt;SCL_alt;AIN2) (io), 2 PA3(EXTCLK;SCK;XCK_alt;AIN3) (io), 3 GND (power), 4 VDD (power), 5 PA4(SS;XDIR_alt;AIN4) (io), 6 PA5(AIN5) (io), 7 PA6(AIN6;DAC) (io), 8 PA7(AIN7) (io), 9 PB5(CLKOUT;AIN8) (io), 10 PB4(AIN9) (io), 11 PB3(RX;TOSC1) (io), 12 PB2(TX;TOSC2) (io), 13 PB1(XCK;AIN10) (io), 14 PB0(XDIR;AIN11) (io), 15 PC0(SCK_alt) (io), 16 PC1(MISO_alt) (io), 17 PC2(MOSI_alt) (io), 18 PC3(SS_alt) (io), 19 PA0(AIN0;~{RST}/UPDI) (io), 20 PA1(MOSI;TX_alt;SDA_alt;AIN1) (io), 21 TGND (power)

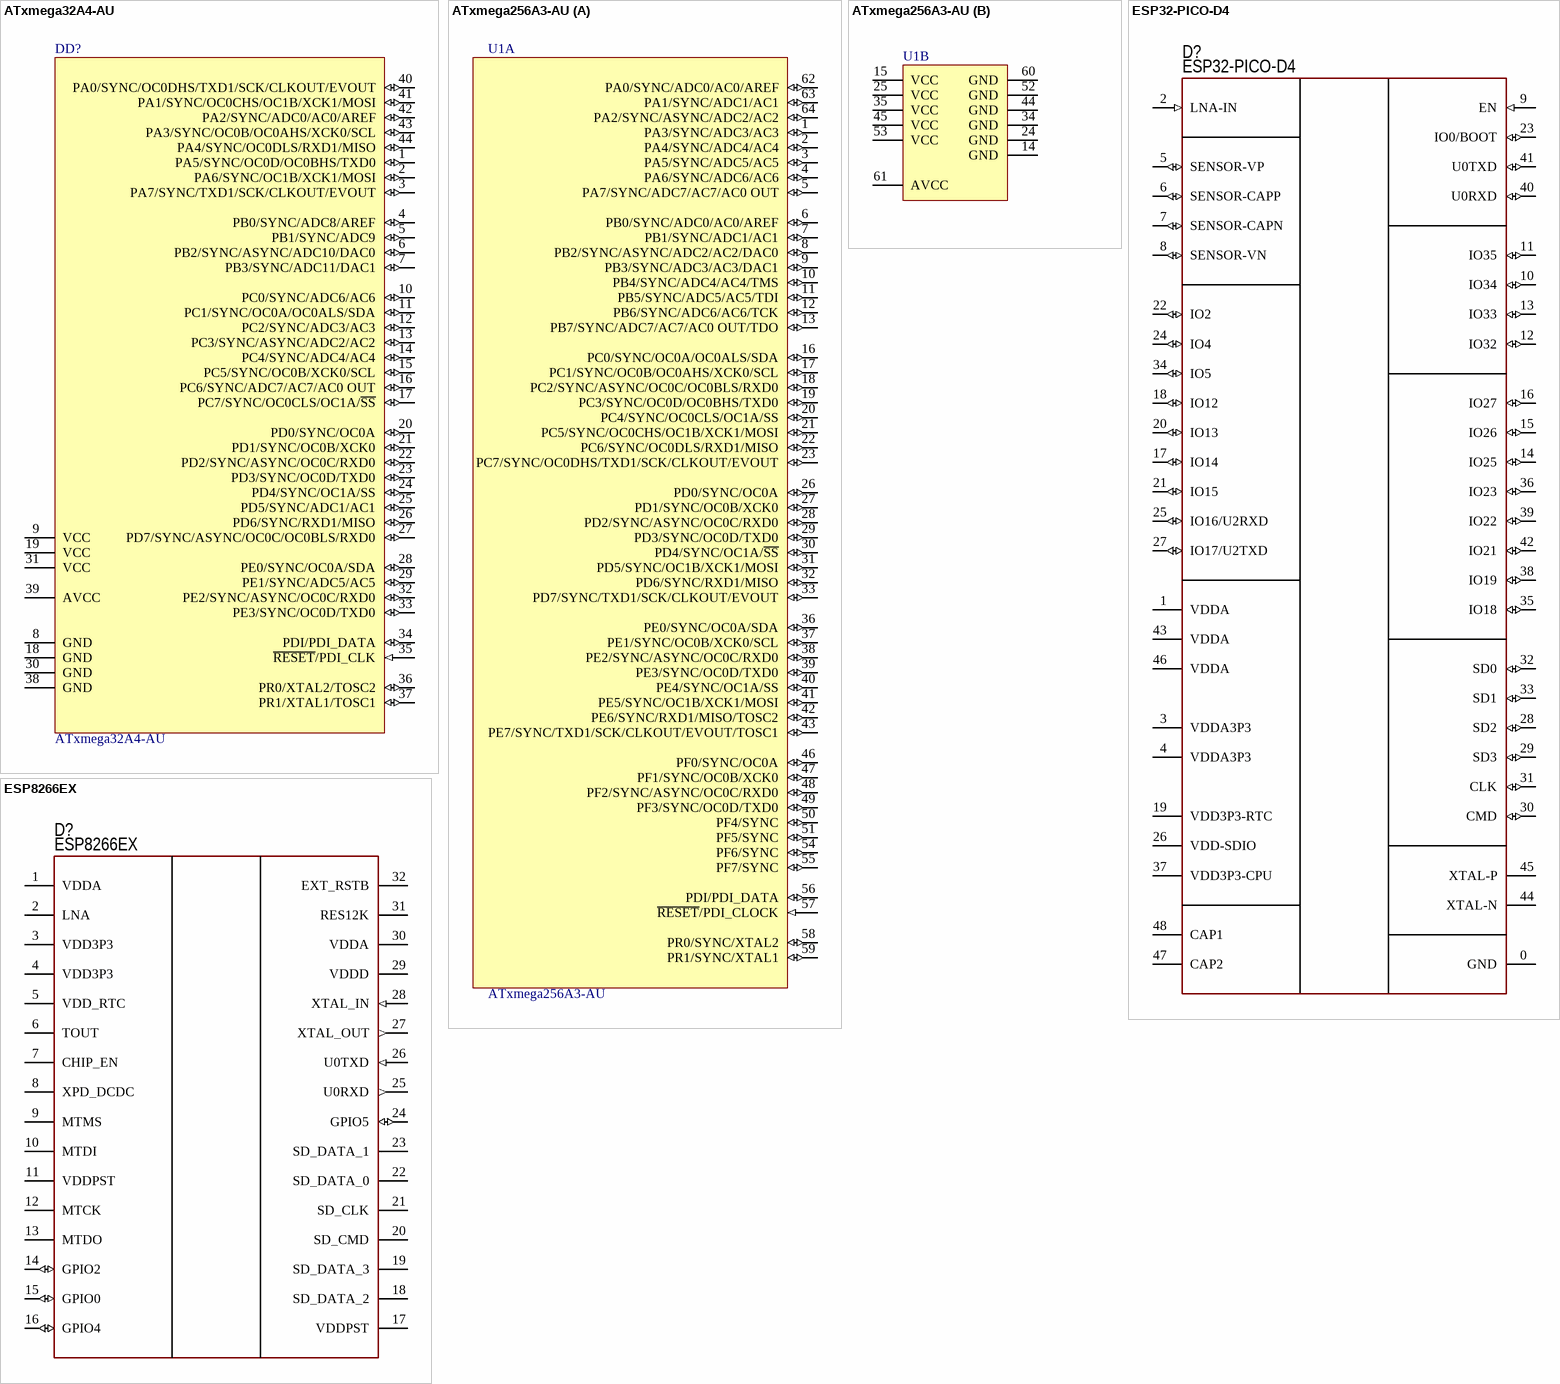
[diagram p6: symbols ATxmega32A4-AU to ESP8266EX]

## ATxmega32A4-AU
designator DD?
XMEGA; Published: 1-Apr-2010; DatasheetVersion: revN, Feb-2010; PackageVersion: rev.B, Oct-2001; PackageReference: 44A; Publisher: Altium Limited; PackageDescription: 44-Pin Plastic Thin Profile Quad Flat Pack, 10 x 10 x 1.0 mm Body, 0.8 mm Pitch (TQFP); Supplier 1: Digi-Key; Supplier Part Number 1: ATXMEGA32A4-AU-ND; Supplier 2: Farnell; Supplier Part Number 2: 1748557; Supplier 3: Mouser; Supplier Part Number 3: 556-ATXMEGA32A4-AU; ComponentLink1Description: Manufacturer Link; ComponentLink1URL: http://www.atmel.com/products/avr/default.asp?; ComponentLink2Description: ATxmega16A4/32A4/64A4/128A4 Datasheet; ComponentLink2URL: http://www.atmel.com/dyn/resources/prod_documents/doc8069.pdf; ComponentLink3Description: Atmel.com Home; ComponentLink3URL: http://www.atmel.com
footprint 44A_N (Thin QFP, 44-Leads, Body 10x10mm, Pitch 0.8mm, IPC Medium Density)
footprint 44A_L (Thin QFP, 44-Leads, Body 10x10mm, Pitch 0.8mm, IPC High Density)
footprint 44A_M (Thin QFP, 44-Leads, Body 10x10mm, Pitch 0.8mm, IPC Low Density)
pins: 1 PA5/SYNC/OC0D/OC0BHS/TXD0 (io), 2 PA6/SYNC/OC1B/XCK1/MOSI (io), 3 PA7/SYNC/TXD1/SCK/CLKOUT/EVOUT (io), 4 PB0/SYNC/ADC8/AREF (io), 5 PB1/SYNC/ADC9 (io), 6 PB2/SYNC/ASYNC/ADC10/DAC0 (io), 7 PB3/SYNC/ADC11/DAC1 (io), 8 GND (power), 9 VCC (power), 10 PC0/SYNC/ADC6/AC6 (io), 11 PC1/SYNC/OC0A/OC0ALS/SDA (io), 12 PC2/SYNC/ADC3/AC3 (io), 13 PC3/SYNC/ASYNC/ADC2/AC2 (io), 14 PC4/SYNC/ADC4/AC4 (io), 15 PC5/SYNC/OC0B/XCK0/SCL (io), 16 PC6/SYNC/ADC7/AC7/AC0 OUT (io), 17 PC7/SYNC/OC0CLS/OC1A/~{SS} (io), 18 GND (power), 19 VCC (power), 20 PD0/SYNC/OC0A (io), 21 PD1/SYNC/OC0B/XCK0 (io), 22 PD2/SYNC/ASYNC/OC0C/RXD0 (io), 23 PD3/SYNC/OC0D/TXD0 (io), 24 PD4/SYNC/OC1A/SS (io), 25 PD5/SYNC/ADC1/AC1 (io), 26 PD6/SYNC/RXD1/MISO (io), 27 PD7/SYNC/ASYNC/OC0C/OC0BLS/RXD0 (io), 28 PE0/SYNC/OC0A/SDA (io), 29 PE1/SYNC/ADC5/AC5 (io), 30 GND (power), 31 VCC (power), 32 PE2/SYNC/ASYNC/OC0C/RXD0 (io), 33 PE3/SYNC/OC0D/TXD0 (io), 34 PDI/PDI_DATA (io), 35 ~{RESET}/PDI_CLK (in), 36 PR0/XTAL2/TOSC2 (io), 37 PR1/XTAL1/TOSC1 (io), 38 GND (power), 39 AVCC (power), 40 PA0/SYNC/OC0DHS/TXD1/SCK/CLKOUT/EVOUT (io), 41 PA1/SYNC/OC0CHS/OC1B/XCK1/MOSI (io), 42 PA2/SYNC/ADC0/AC0/AREF (io), 43 PA3/SYNC/OC0B/OC0AHS/XCK0/SCL (io), 44 PA4/SYNC/OC0DLS/RXD1/MISO (io)

## ATxmega256A3-AU
designator U1
XMEGA; Published: 1-Apr-2010; DatasheetVersion: revQ, Feb-2010; PackageVersion: revB, Oct-2001; PackageReference: 64A; Publisher: Altium Limited; PackageDescription: 64-Pin Plastic Thin Profile Quad Flat Pack, 14 x 14 x 1.0 mm Body, 0.8 mm Pitch (TQFP); Supplier 1: Digi-Key; Supplier Part Number 1: ATXMEGA256A3-AU-ND; Supplier 2: Farnell; Supplier Part Number 2: 1748554; Supplier 3: Mouser; Supplier Part Number 3: 556-ATXMEGA256A3-AU; Code_JEDEC: MS-026-AEB; ComponentLink1Description: Manufacturer Link; ComponentLink1URL: http://www.atmel.com/products/avr/default.asp?; ComponentLink2Description: ATxmega64A3/128A3/192A3/256A3 Datasheet; ComponentLink2URL: http://www.atmel.com/dyn/resources/prod_documents/doc8068.pdf; ComponentLink3Description: Atmel.com Home; ComponentLink3URL: http://www.atmel.com
footprint 64A_N (Thin QFP, 64-Leads, Body 14x14mm, Pitch 0.8mm, IPC Medium Density)
footprint 64A_L (Thin QFP, 64-Leads, Body 14x14mm, Pitch 0.8mm, IPC High Density)
footprint 64A_M (Thin QFP, 64-Leads, Body 14x14mm, Pitch 0.8mm, IPC Low Density)
part A pins: 1 PA3/SYNC/ADC3/AC3 (io), 2 PA4/SYNC/ADC4/AC4 (io), 3 PA5/SYNC/ADC5/AC5 (io), 4 PA6/SYNC/ADC6/AC6 (io), 5 PA7/SYNC/ADC7/AC7/AC0 OUT (io), 6 PB0/SYNC/ADC0/AC0/AREF (io), 7 PB1/SYNC/ADC1/AC1 (io), 8 PB2/SYNC/ASYNC/ADC2/AC2/DAC0 (io), 9 PB3/SYNC/ADC3/AC3/DAC1 (io), 10 PB4/SYNC/ADC4/AC4/TMS (io), 11 PB5/SYNC/ADC5/AC5/TDI (io), 12 PB6/SYNC/ADC6/AC6/TCK (io), 13 PB7/SYNC/ADC7/AC7/AC0 OUT/TDO (io), 16 PC0/SYNC/OC0A/OC0ALS/SDA (io), 17 PC1/SYNC/OC0B/OC0AHS/XCK0/SCL (io), 18 PC2/SYNC/ASYNC/OC0C/OC0BLS/RXD0 (io), 19 PC3/SYNC/OC0D/OC0BHS/TXD0 (io), 20 PC4/SYNC/OC0CLS/OC1A/SS (io), 21 PC5/SYNC/OC0CHS/OC1B/XCK1/MOSI (io), 22 PC6/SYNC/OC0DLS/RXD1/MISO (io), 23 PC7/SYNC/OC0DHS/TXD1/SCK/CLKOUT/EVOUT (io), 26 PD0/SYNC/OC0A (io), 27 PD1/SYNC/OC0B/XCK0 (io), 28 PD2/SYNC/ASYNC/OC0C/RXD0 (io), 29 PD3/SYNC/OC0D/TXD0 (io), 30 PD4/SYNC/OC1A/~{SS} (io), 31 PD5/SYNC/OC1B/XCK1/MOSI (io), 32 PD6/SYNC/RXD1/MISO (io), 33 PD7/SYNC/TXD1/SCK/CLKOUT/EVOUT (io), 36 PE0/SYNC/OC0A/SDA (io), 37 PE1/SYNC/OC0B/XCK0/SCL (io), 38 PE2/SYNC/ASYNC/OC0C/RXD0 (io), 39 PE3/SYNC/OC0D/TXD0 (io), 40 PE4/SYNC/OC1A/SS (io), 41 PE5/SYNC/OC1B/XCK1/MOSI (io), 42 PE6/SYNC/RXD1/MISO/TOSC2 (io), 43 PE7/SYNC/TXD1/SCK/CLKOUT/EVOUT/TOSC1 (io), 46 PF0/SYNC/OC0A (io), 47 PF1/SYNC/OC0B/XCK0 (io), 48 PF2/SYNC/ASYNC/OC0C/RXD0 (io), 49 PF3/SYNC/OC0D/TXD0 (io), 50 PF4/SYNC (io), 51 PF5/SYNC (io), 54 PF6/SYNC (io), 55 PF7/SYNC (io), 56 PDI/PDI_DATA (io), 57 ~{RESET}/PDI_CLOCK (in), 58 PR0/SYNC/XTAL2 (io), 59 PR1/SYNC/XTAL1 (io), 62 PA0/SYNC/ADC0/AC0/AREF (io), 63 PA1/SYNC/ADC1/AC1 (io), 64 PA2/SYNC/ASYNC/ADC2/AC2 (io)
part B pins: 14 GND (power), 15 VCC (power), 24 GND (power), 25 VCC (power), 34 GND (power), 35 VCC (power), 44 GND (power), 45 VCC (power), 52 GND (power), 53 VCC (power), 60 GND (power), 61 AVCC (power)

## ESP32-PICO-D4
designator D?  PartNumber: ESP32-PICO-D4
Wi-Fi+BT; Manufacturer: Espressif Systems; ValueManufacturerPartNumber: IC RF transceiver, 802.11b/g/n + Bluetooth v4.2, 2.4GHz, 32-Bit, Xtensa LX6, 4Mb, 520KB, 2.7...3.6V, -40...+85°C, 48-LGA; Supply: 2.7...3.6V; CoreSpeed: 600 DMIPS; CoreSize: 32-Bit; MemoryROM: 4Mb; MemoryRAM: 520KB; CoreProcessor: Xtensa LX6; Frequency: 2.4GHz; TypeProtocol: 802.11b/g/n + Bluetooth v4.2; HelpURL: https://www.digikey.com/product-detail/en/espressif-systems/ESP32-PICO-D4/1904-1029-1-ND/9381738; Package: 48-LGA; ComponentType: IC RF transceiver; Temperature: -40...+85°C
footprint 48-LGA (7x7) (7x7 mm, pitch 0.5 mm, power pad)
pins: 0 GND, 1 VDDA, 2 LNA-IN (in), 3 VDDA3P3, 4 VDDA3P3, 5 SENSOR-VP (io), 6 SENSOR-CAPP (io), 7 SENSOR-CAPN (io), 8 SENSOR-VN (io), 9 EN (in), 10 IO34 (io), 11 IO35 (io), 12 IO32 (io), 13 IO33 (io), 14 IO25 (io), 15 IO26 (io), 16 IO27 (io), 17 IO14 (io), 18 IO12 (io), 19 VDD3P3-RTC, 20 IO13 (io), 21 IO15 (io), 22 IO2 (io), 23 IO0/BOOT (io), 24 IO4 (io), 25 IO16/U2RXD (io), 26 VDD-SDIO, 27 IO17/U2TXD (io), 28 SD2 (io), 29 SD3 (io), 30 CMD (io), 31 CLK (io), 32 SD0 (io), 33 SD1 (io), 34 IO5 (io), 35 IO18 (io), 36 IO23 (io), 37 VDD3P3-CPU, 38 IO19 (io), 39 IO22 (io), 40 U0RXD (io), 41 U0TXD (io), 42 IO21 (io), 43 VDDA, 44 XTAL-N, 45 XTAL-P, 46 VDDA, 47 CAP2, 48 CAP1

## ESP8266EX
designator D?  PartNumber: ESP8266EX
Wi-Fi; Manufacturer: Espressif Systems; ValueManufacturerPartNumber: IC RF transceiver, 802.11b/g/n, 2.4GHz, 32-Bit, Cortex-M3, External FLASH, 50KB, 2.5...3.6V, -40...+85°C, 32-VFQFN; Supply: 2.5...3.6V; CoreSpeed: 160 MHz; CoreSize: 32-Bit; MemoryROM: External FLASH; MemoryRAM: 50KB; CoreProcessor: Cortex-M3; Frequency: 2.4GHz; TypeProtocol: 802.11b/g/n; HelpURL: https://www.digikey.com/product-detail/en/espressif-systems/ESP8266EX/1904-1001-1-ND/8028408; Package: 32-VFQFN; ComponentType: IC RF transceiver; Temperature: -40...+85°C
footprint 32-QFN (5x5 mm, pitch 0.5 mm, power pad)
pins: 1 VDDA, 2 LNA, 3 VDD3P3, 4 VDD3P3, 5 VDD_RTC, 6 TOUT, 7 CHIP_EN, 8 XPD_DCDC, 9 MTMS, 10 MTDI, 11 VDDPST, 12 MTCK, 13 MTDO, 14 GPIO2 (io), 15 GPIO0 (io), 16 GPIO4 (io), 17 VDDPST, 18 SD_DATA_2, 19 SD_DATA_3, 20 SD_CMD, 21 SD_CLK, 22 SD_DATA_0, 23 SD_DATA_1, 24 GPIO5 (io), 25 U0RXD (out), 26 U0TXD (in), 27 XTAL_OUT (out), 28 XTAL_IN (in), 29 VDDD, 30 VDDA, 31 RES12K, 32 EXT_RSTB

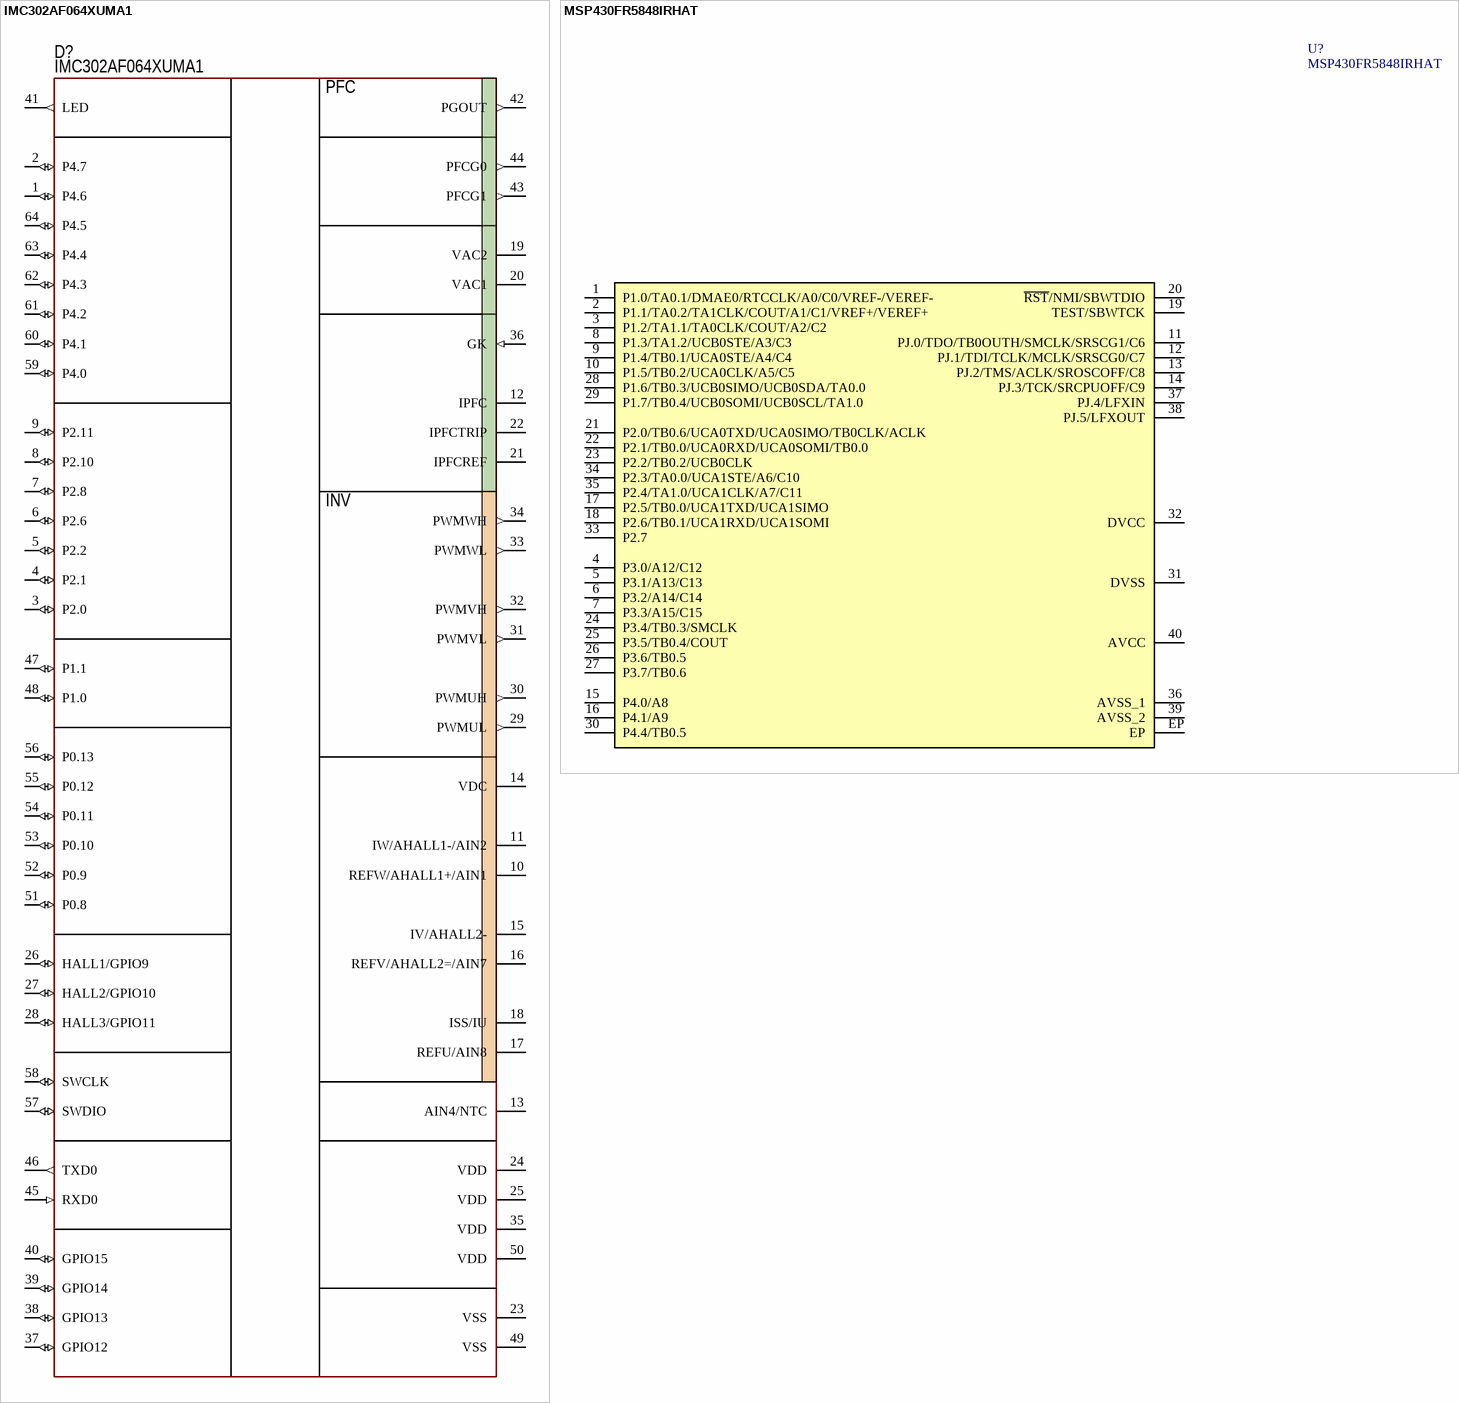
[diagram p7: symbols IMC302AF064XUMA1 to MSP430FR5848IRHAT]

## IMC302AF064XUMA1
designator D?  PartNumber: IMC302AF064XUMA1
Cortex-M4; Manufacturer: Infineon; ValueManufacturerPartNumber: IC microcontroller, 32-Bit, Cortex-M0, 96MHz, 128KB, 16KB, 2.7...5.5V, -40...+85°C, LQFP-64; Supply: 2.7...5.5V; Speed: 96MHz; CoreSize: 32-Bit; MemoryROM: 128KB; MemoryRAM: 16KB; CoreProcessor: Cortex-M0; HelpURL: https://ru.mouser.com/ProductDetail/STMicroelectronics/STM32G474VET6?qs=sGAEpiMZZMuoKKEcg8mMKJ29ob8kKavQypc1s7YBx7CUDd%252BMTMV0Hg%3D%3D; Package: LQFP-64; ComponentType: IC microcontroller; Temperature: -40...+85°C
footprint LQFP-64
pins: 1 P4.6 (io), 2 P4.7 (io), 3 P2.0 (io), 4 P2.1 (io), 5 P2.2 (io), 6 P2.6 (io), 7 P2.8 (io), 8 P2.10 (io), 9 P2.11 (io), 10 REFW/AHALL1+/AIN1, 11 IW/AHALL1-/AIN2, 12 IPFC, 13 AIN4/NTC, 14 VDC, 15 IV/AHALL2-, 16 REFV/AHALL2=/AIN7, 17 REFU/AIN8, 18 ISS/IU, 19 VAC2, 20 VAC1, 21 IPFCREF, 22 IPFCTRIP, 23 VSS, 24 VDD, 25 VDD, 26 HALL1/GPIO9 (io), 27 HALL2/GPIO10 (io), 28 HALL3/GPIO11 (io), 29 PWMUL (out), 30 PWMUH (out), 31 PWMVL (out), 32 PWMVH (out), 33 PWMWL (out), 34 PWMWH (out), 35 VDD, 36 GK (in), 37 GPIO12 (io), 38 GPIO13 (io), 39 GPIO14 (io), 40 GPIO15 (io), 41 LED (out), 42 PGOUT (out), 43 PFCG1 (out), 44 PFCG0 (out), 45 RXD0 (in), 46 TXD0 (out), 47 P1.1 (io), 48 P1.0 (io), 49 VSS, 50 VDD, 51 P0.8 (io), 52 P0.9 (io), 53 P0.10 (io), 54 P0.11 (io), 55 P0.12 (io), 56 P0.13 (io), 57 SWDIO (io), 58 SWCLK (io), 59 P4.0 (io), 60 P4.1 (io), 61 P4.2 (io), 62 P4.3 (io), 63 P4.4 (io), 64 P4.5 (io)
text: PFC; INV

## MSP430FR5848IRHAT
designator U?
MSP430FR
footprint VQFN-40
pins: 1 P1.0/TA0.1/DMAE0/RTCCLK/A0/C0/VREF-/VEREF-, 2 P1.1/TA0.2/TA1CLK/COUT/A1/C1/VREF+/VEREF+, 3 P1.2/TA1.1/TA0CLK/COUT/A2/C2, 4 P3.0/A12/C12, 5 P3.1/A13/C13, 6 P3.2/A14/C14, 7 P3.3/A15/C15, 8 P1.3/TA1.2/UCB0STE/A3/C3, 9 P1.4/TB0.1/UCA0STE/A4/C4, 10 P1.5/TB0.2/UCA0CLK/A5/C5, 11 PJ.0/TDO/TB0OUTH/SMCLK/SRSCG1/C6, 12 PJ.1/TDI/TCLK/MCLK/SRSCG0/C7, 13 PJ.2/TMS/ACLK/SROSCOFF/C8, 14 PJ.3/TCK/SRCPUOFF/C9, 15 P4.0/A8, 16 P4.1/A9, 17 P2.5/TB0.0/UCA1TXD/UCA1SIMO, 18 P2.6/TB0.1/UCA1RXD/UCA1SOMI, 19 TEST/SBWTCK, 20 ~{RST}/NMI/SBWTDIO, 21 P2.0/TB0.6/UCA0TXD/UCA0SIMO/TB0CLK/ACLK, 22 P2.1/TB0.0/UCA0RXD/UCA0SOMI/TB0.0, 23 P2.2/TB0.2/UCB0CLK, 24 P3.4/TB0.3/SMCLK, 25 P3.5/TB0.4/COUT, 26 P3.6/TB0.5, 27 P3.7/TB0.6, 28 P1.6/TB0.3/UCB0SIMO/UCB0SDA/TA0.0, 29 P1.7/TB0.4/UCB0SOMI/UCB0SCL/TA1.0, 30 P4.4/TB0.5, 31 DVSS, 32 DVCC, 33 P2.7, 34 P2.3/TA0.0/UCA1STE/A6/C10, 35 P2.4/TA1.0/UCA1CLK/A7/C11, 36 AVSS_1, 37 PJ.4/LFXIN, 38 PJ.5/LFXOUT, 39 AVSS_2, 40 AVCC, EP

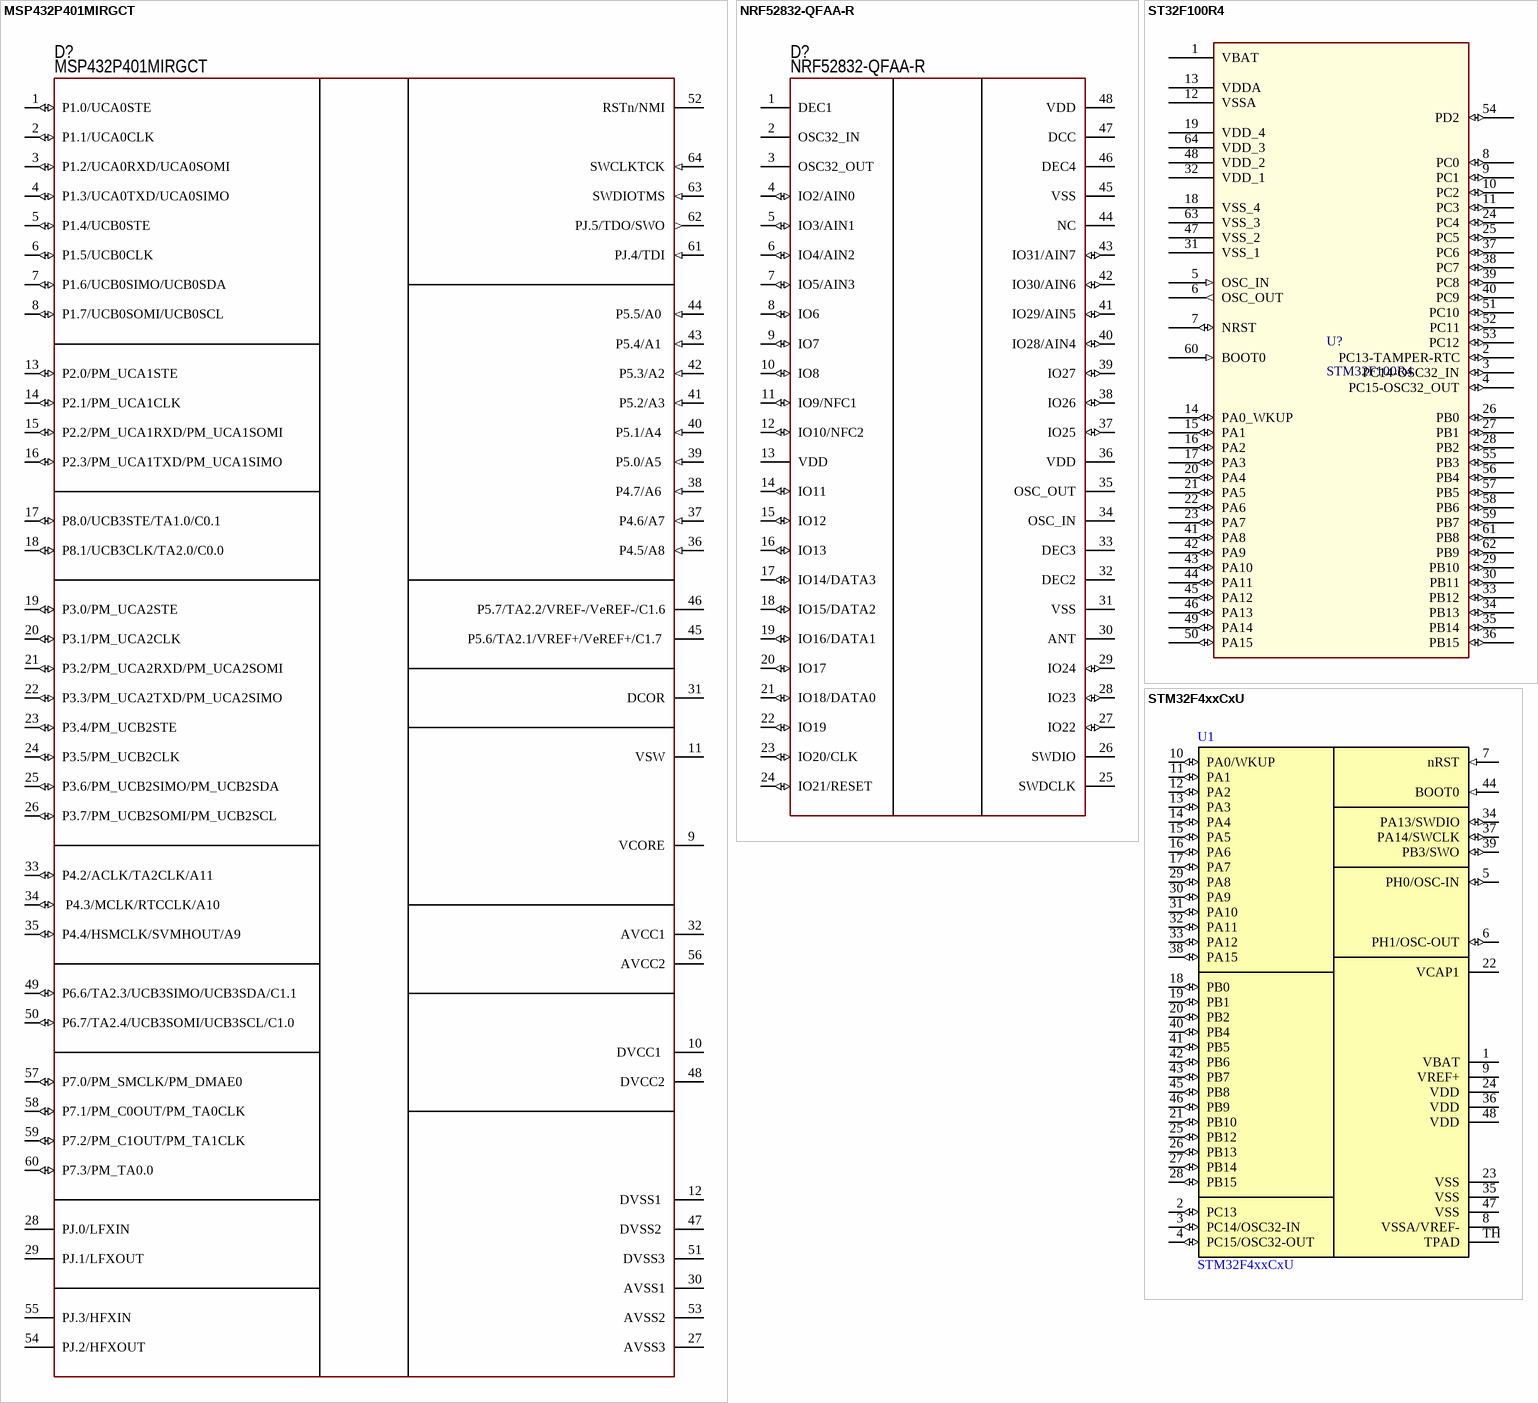
[diagram p8: symbols MSP432P401MIRGCT to STM32F4xxCxU]

## MSP432P401MIRGCT
designator D?  PartNumber: MSP432P401MIRGCT
Cortex-M4F; Manufacturer: STMicroelectronics; ValueManufacturerPartNumber: IC microcontroller, 32-Bit, Cortex-M4F, 48MHz, 128KB, 32KB, 2...3.6V, -40...+85°C, 64-VFQFN; Supply: 2...3.6V; Speed: 48MHz; CoreSize: 32-Bit; MemoryROM: 128KB; MemoryRAM: 32KB; HelpURL: https://www.digikey.com/product-detail/en/texas-instruments/MSP432P401MIRGCT/296-45486-1-ND/6821077; Package: 64-VFQFN; ComponentType: IC microcontroller; Temperature: -40...+85°C; CoreProcessor: Cortex-M4F
footprint 64-QFN (9x9 mm, pitch 0.5 mm, power pad)
pins: 1 P1.0/UCA0STE  (io), 2 P1.1/UCA0CLK  (io), 3 P1.2/UCA0RXD/UCA0SOMI  (io), 4 P1.3/UCA0TXD/UCA0SIMO (io), 5 P1.4/UCB0STE (io), 6 P1.5/UCB0CLK  (io), 7 P1.6/UCB0SIMO/UCB0SDA (io), 8 P1.7/UCB0SOMI/UCB0SCL (io), 9 VCORE (power), 10 DVCC1  (power), 11 VSW (power), 12 DVSS1  (power), 13 P2.0/PM_UCA1STE (io), 14 P2.1/PM_UCA1CLK  (io), 15 P2.2/PM_UCA1RXD/PM_UCA1SOMI  (io), 16 P2.3/PM_UCA1TXD/PM_UCA1SIMO (io), 17 P8.0/UCB3STE/TA1.0/C0.1 (io), 18 P8.1/UCB3CLK/TA2.0/C0.0 (io), 19 P3.0/PM_UCA2STE (io), 20 P3.1/PM_UCA2CLK (io), 21 P3.2/PM_UCA2RXD/PM_UCA2SOMI (io), 22 P3.3/PM_UCA2TXD/PM_UCA2SIMO (io), 23 P3.4/PM_UCB2STE (io), 24 P3.5/PM_UCB2CLK (io), 25 P3.6/PM_UCB2SIMO/PM_UCB2SDA (io), 26 P3.7/PM_UCB2SOMI/PM_UCB2SCL (io), 27 AVSS3 (power), 28 PJ.0/LFXIN, 29 PJ.1/LFXOUT, 30 AVSS1 (power), 31 DCOR (power), 32 AVCC1 (power), 33 P4.2/ACLK/TA2CLK/A11  (io), 34  P4.3/MCLK/RTCCLK/A10  (io), 35 P4.4/HSMCLK/SVMHOUT/A9 (io), 36 P4.5/A8 (in), 37 P4.6/A7 (in), 38 P4.7/A6  (in), 39 P5.0/A5  (in), 40  P5.1/A4  (in), 41 P5.2/A3 (in), 42 P5.3/A2 (in), 43  P5.4/A1  (in), 44 P5.5/A0  (in), 45 P5.6/TA2.1/VREF+/VeREF+/C1.7  (power), 46 P5.7/TA2.2/VREF-/VeREF-/C1.6 (power), 47 DVSS2  (power), 48 DVCC2 (power), 49 P6.6/TA2.3/UCB3SIMO/UCB3SDA/C1.1 (io), 50 P6.7/TA2.4/UCB3SOMI/UCB3SCL/C1.0 (io), 51 DVSS3 (power), 52 RSTn/NMI, 53 AVSS2 (power), 54 PJ.2/HFXOUT, 55 PJ.3/HFXIN, 56 AVCC2 (power), 57 P7.0/PM_SMCLK/PM_DMAE0 (io), 58 P7.1/PM_C0OUT/PM_TA0CLK (io), 59 P7.2/PM_C1OUT/PM_TA1CLK (io), 60 P7.3/PM_TA0.0 (io), 61 PJ.4/TDI (in), 62 PJ.5/TDO/SWO (out), 63 SWDIOTMS (in), 64 SWCLKTCK (in)

## NRF52832-QFAA-R
designator D?  PartNumber: NRF52832-QFAA-R
BLE; Manufacturer: Nordic Semiconductor; ValueManufacturerPartNumber: IC RF transceiver, 2.4 GHz (BLE v4.1), 32-Bit, Cortex-M4, 64 MHz, 512KB, 64KB, 1.7...3.6V, -40...+85°C, 48-VFQFN; Supply: 1.7...3.6V; CoreSpeed: 64 MHz; CoreSize: 32-Bit; MemoryROM: 512KB; MemoryRAM: 64KB; CoreProcessor: Cortex-M4; Frequency: 2.4 GHz (BLE v4.1); HelpURL: https://www.digikey.com/product-detail/en/nordic-semiconductor-asa/NRF52832-QFAA-R/1490-1052-1-ND/5428660; Package: 48-VFQFN; ComponentType: IC RF transceiver; Temperature: -40...+85°C
footprint 48-QFN (6x6) (6x6 mm, pitch 0.4 mm, power pad)
pins: 1 DEC1, 2 OSC32_IN, 3 OSC32_OUT, 4 IO2/AIN0 (io), 5 IO3/AIN1 (io), 6 IO4/AIN2 (io), 7 IO5/AIN3 (io), 8 IO6 (io), 9 IO7 (io), 10 IO8 (io), 11 IO9/NFC1 (io), 12 IO10/NFC2 (io), 13 VDD, 14 IO11 (io), 15 IO12 (io), 16 IO13 (io), 17 IO14/DATA3 (io), 18 IO15/DATA2 (io), 19 IO16/DATA1 (io), 20 IO17 (io), 21 IO18/DATA0 (io), 22 IO19 (io), 23 IO20/CLK (io), 24 IO21/RESET (io), 25 SWDCLK, 26 SWDIO, 27 IO22 (io), 28 IO23 (io), 29 IO24 (io), 30 ANT, 31 VSS, 32 DEC2, 33 DEC3, 34 OSC_IN, 35 OSC_OUT, 36 VDD, 37 IO25 (io), 38 IO26 (io), 39 IO27 (io), 40 IO28/AIN4 (io), 41 IO29/AIN5 (io), 42 IO30/AIN6 (io), 43 IO31/AIN7 (io), 44 NC, 45 VSS, 46 DEC4, 47 DCC, 48 VDD

## ST32F100R4
designator U?, comment STM32F100R4
???; DefaultOrder: *; Order: *
footprint LQFP-64
pins: 1 VBAT (power), 2 PC13-TAMPER-RTC (io), 3 PC14-OSC32_IN (io), 4 PC15-OSC32_OUT (io), 5 OSC_IN (in), 6 OSC_OUT (out), 7 NRST (io), 8 PC0 (io), 9 PC1 (io), 10 PC2 (io), 11 PC3 (io), 12 VSSA (power), 13 VDDA (power), 14 PA0_WKUP (io), 15 PA1 (io), 16 PA2 (io), 17 PA3 (io), 18 VSS_4 (power), 19 VDD_4 (power), 20 PA4 (io), 21 PA5 (io), 22 PA6 (io), 23 PA7 (io), 24 PC4 (io), 25 PC5 (io), 26 PB0 (io), 27 PB1 (io), 28 PB2 (io), 29 PB10 (io), 30 PB11 (io), 31 VSS_1 (power), 32 VDD_1 (power), 33 PB12 (io), 34 PB13 (io), 35 PB14 (io), 36 PB15 (io), 37 PC6 (io), 38 PC7 (io), 39 PC8 (io), 40 PC9 (io), 41 PA8 (io), 42 PA9 (io), 43 PA10 (io), 44 PA11 (io), 45 PA12 (io), 46 PA13 (io), 47 VSS_2 (power), 48 VDD_2 (power), 49 PA14 (io), 50 PA15 (io), 51 PC10 (io), 52 PC11 (io), 53 PC12 (io), 54 PD2 (io), 55 PB3 (io), 56 PB4 (io), 57 PB5 (io), 58 PB6 (io), 59 PB7 (io), 60 BOOT0 (in), 61 PB8 (io), 62 PB9 (io), 63 VSS_3 (power), 64 VDD_3 (power)

## STM32F4xxCxU
designator U1
Cortex-M4
footprint QFN-48
pins: 1 VBAT (power), 2 PC13 (io), 3 PC14/OSC32-IN (io), 4 PC15/OSC32-OUT (io), 5 PH0/OSC-IN (io), 6 PH1/OSC-OUT (io), 7 nRST (in), 8 VSSA/VREF- (power), 9 VREF+ (power), 10 PA0/WKUP (io), 11 PA1 (io), 12 PA2 (io), 13 PA3 (io), 14 PA4 (io), 15 PA5 (io), 16 PA6 (io), 17 PA7 (io), 18 PB0 (io), 19 PB1 (io), 20 PB2 (io), 21 PB10 (io), 22 VCAP1 (power), 23 VSS (power), 24 VDD (power), 25 PB12 (io), 26 PB13 (io), 27 PB14 (io), 28 PB15 (io), 29 PA8 (io), 30 PA9 (io), 31 PA10 (io), 32 PA11 (io), 33 PA12 (io), 34 PA13/SWDIO (io), 35 VSS (power), 36 VDD (power), 37 PA14/SWCLK (io), 38 PA15 (io), 39 PB3/SWO (io), 40 PB4 (io), 41 PB5 (io), 42 PB6 (io), 43 PB7 (io), 44 BOOT0 (in), 45 PB8 (io), 46 PB9 (io), 47 VSS (power), 48 VDD (power), TH TPAD (power)

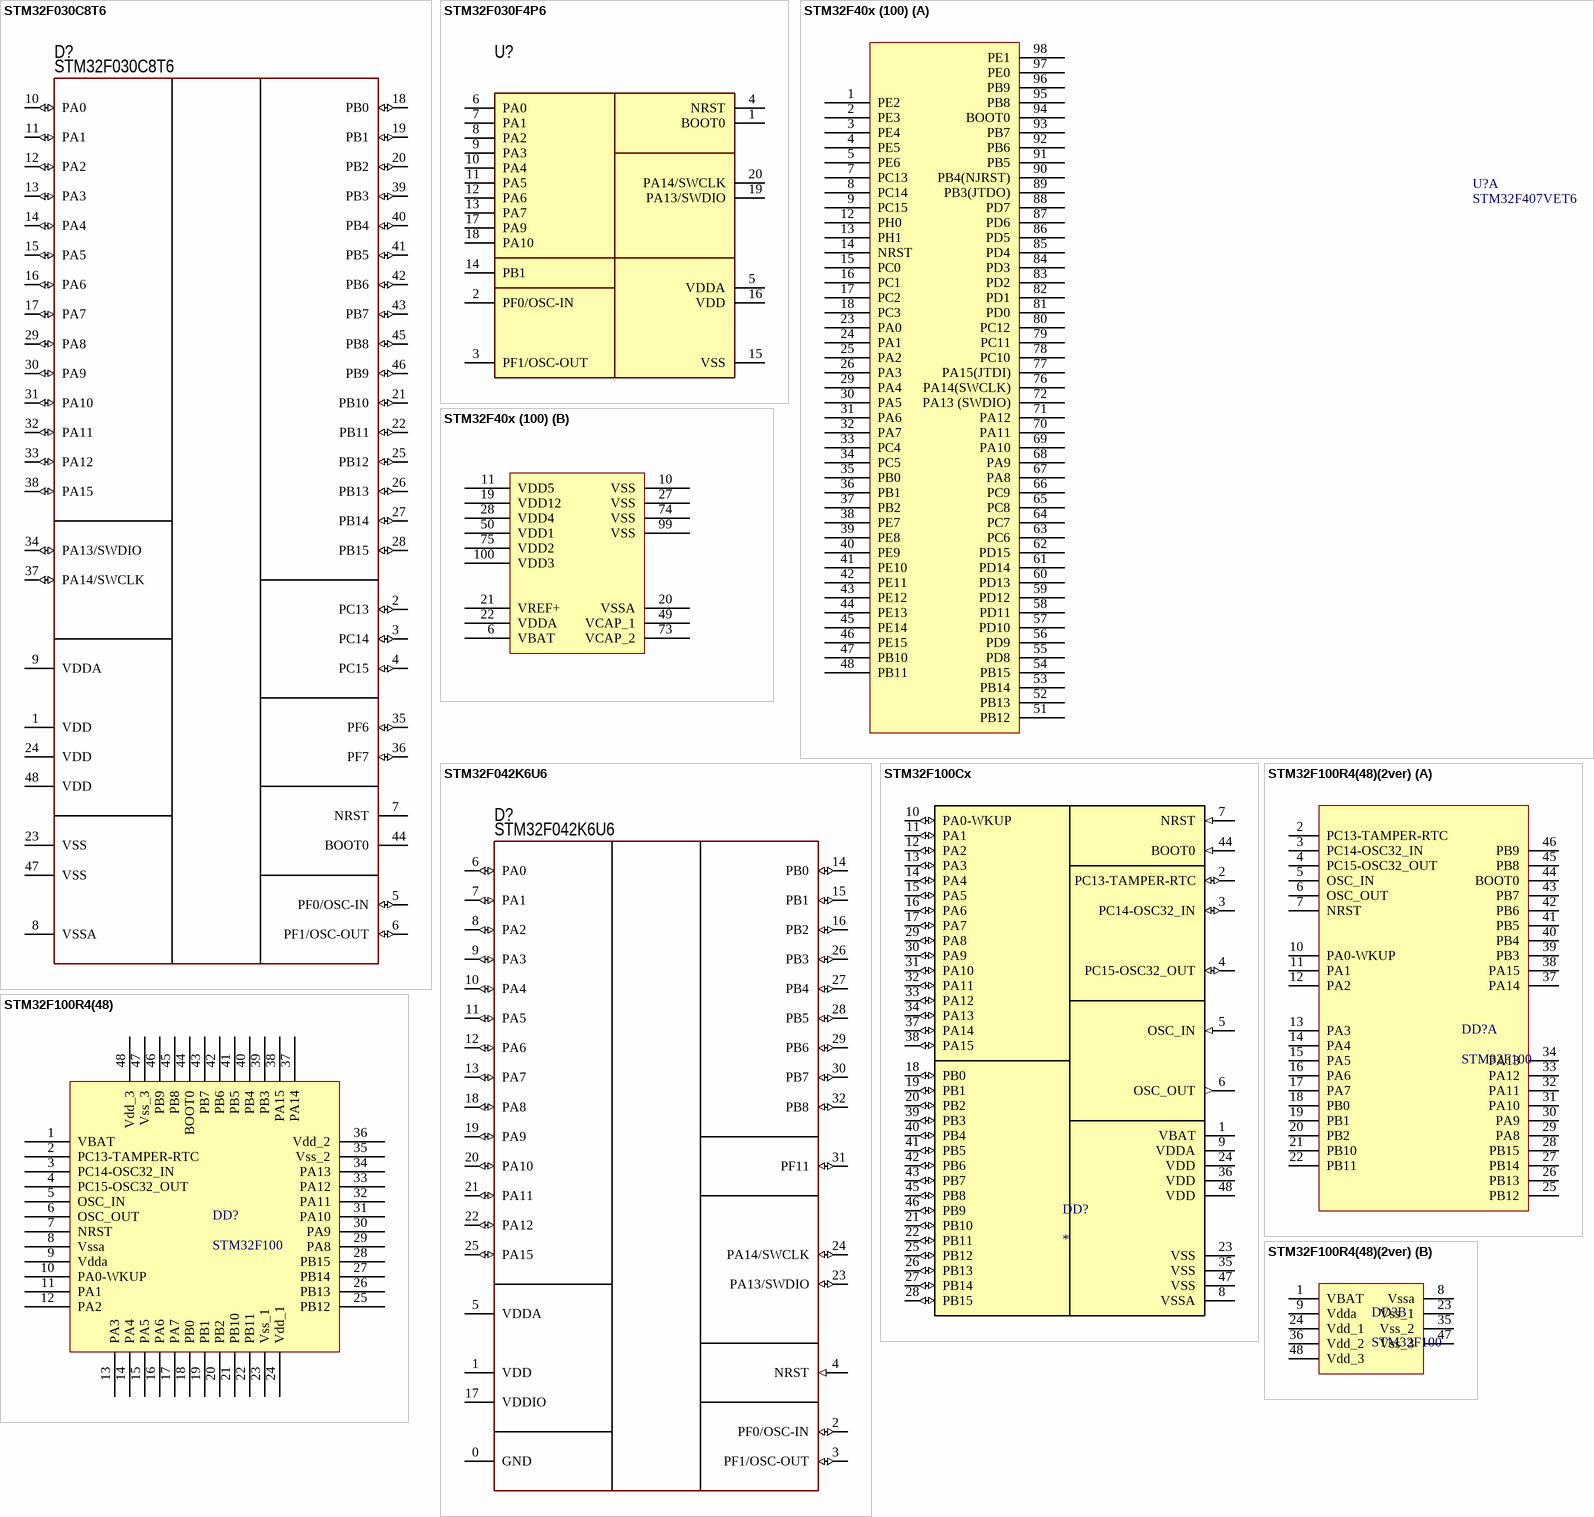
[diagram p9: symbols STM32F030C8T6 to STM32F100R4(48)(2ver)]

## STM32F030C8T6
designator D?  PartNumber: STM32F030C8T6
Cortex-M0; Manufacturer: STMicroelectronics; ValueManufacturerPartNumber: IC microcontroller, 32-Bit, Cortex-M0, 48MHz, 64KB, 8KB, 2.4...3.6V, -40...+85°C, 48-LQFP; Supply: 2.4...3.6V; Speed: 48MHz; CoreSize: 32-Bit; MemoryROM: 64KB; MemoryRAM: 8KB; HelpURL: https://www.digikey.com/product-detail/en/stmicroelectronics/STM32F030C8T6/497-14043-ND/4357252; Package: 48-LQFP; ComponentType: IC microcontroller; Temperature: -40...+85°C; CoreProcessor: Cortex-M0
footprint LQFP-48 (48-Pin Thin Quad Flat Pack 0.5 mm Pitch, IPC High Density)
pins: 1 VDD, 2 PC13 (io), 3 PC14 (io), 4 PC15 (io), 5 PF0/OSC-IN (io), 6 PF1/OSC-OUT (io), 7 NRST, 8 VSSA, 9 VDDA, 10 PA0 (io), 11 PA1 (io), 12 PA2 (io), 13 PA3 (io), 14 PA4 (io), 15 PA5 (io), 16 PA6 (io), 17 PA7 (io), 18 PB0 (io), 19 PB1 (io), 20 PB2 (io), 21 PB10 (io), 22 PB11 (io), 23 VSS, 24 VDD, 25 PB12 (io), 26 PB13 (io), 27 PB14 (io), 28 PB15 (io), 29 PA8 (io), 30 PA9 (io), 31 PA10 (io), 32 PA11 (io), 33 PA12 (io), 34 PA13/SWDIO (io), 35 PF6 (io), 36 PF7 (io), 37 PA14/SWCLK (io), 38 PA15 (io), 39 PB3 (io), 40 PB4 (io), 41 PB5 (io), 42 PB6 (io), 43 PB7 (io), 44 BOOT0, 45 PB8 (io), 46 PB9 (io), 47 VSS, 48 VDD

## STM32F030F4P6
designator U?  (value not drawn)
Cortex-M0
footprint TSSOP-20
pins: 1 BOOT0, 2 PF0/OSC-IN, 3 PF1/OSC-OUT, 4 NRST, 5 VDDA, 6 PA0, 7 PA1, 8 PA2, 9 PA3, 10 PA4, 11 PA5, 12 PA6, 13 PA7, 14 PB1, 15 VSS, 16 VDD, 17 PA9, 18 PA10, 19 PA13/SWDIO, 20 PA14/SWCLK

## STM32F40x (100)
designator U?, comment STM32F407VET6
32 ARM microcontroller; DefaultOrder: STM32F407VET6; Order: *
footprint LQFP-64
part A pins: 1 PE2, 2 PE3, 3 PE4, 4 PE5, 5 PE6, 7 PC13, 8 PC14, 9 PC15, 12 PH0, 13 PH1, 14 NRST, 15 PC0, 16 PC1, 17 PC2, 18 PC3, 23 PA0, 24 PA1, 25 PA2, 26 PA3, 29 PA4, 30 PA5, 31 PA6, 32 PA7, 33 PC4, 34 PC5, 35 PB0, 36 PB1, 37 PB2, 38 PE7, 39 PE8, 40 PE9, 41 PE10, 42 PE11, 43 PE12, 44 PE13, 45 PE14, 46 PE15, 47 PB10, 48 PB11, 51 PB12, 52 PB13, 53 PB14, 54 PB15, 55 PD8, 56 PD9, 57 PD10, 58 PD11, 59 PD12, 60 PD13, 61 PD14, 62 PD15, 63 PC6, 64 PC7, 65 PC8, 66 PC9, 67 PA8, 68 PA9, 69 PA10, 70 PA11, 71 PA12, 72 PA13 (SWDIO), 76 PA14(SWCLK), 77 PA15(JTDI), 78 PC10, 79 PC11, 80 PC12, 81 PD0, 82 PD1, 83 PD2, 84 PD3, 85 PD4, 86 PD5, 87 PD6, 88 PD7, 89 PB3(JTDO), 90 PB4(NJRST), 91 PB5, 92 PB6, 93 PB7, 94 BOOT0, 95 PB8, 96 PB9, 97 PE0, 98 PE1
part B pins: 6 VBAT, 10 VSS, 11 VDD5, 19 VDD12, 20 VSSA, 21 VREF+, 22 VDDA, 27 VSS, 28 VDD4, 49 VCAP_1, 50 VDD1, 73 VCAP_2, 74 VSS, 75 VDD2, 99 VSS, 100 VDD3

## STM32F042K6U6
designator D?  PartNumber: STM32F042K6U6
Cortex-M0; Manufacturer: STMicroelectronics; ValueManufacturerPartNumber: IC microcontroller, 32-Bit, Cortex-M0, 48MHz, 32KB, 6KB, 1.65...3.6V, -40...+85°C, 32-UFQFPN; Supply: 1.65...3.6V; Speed: 48MHz; CoreSize: 32-Bit; MemoryROM: 32KB; MemoryRAM: 6KB; HelpURL: https://www.digikey.com/product-detail/en/stmicroelectronics/STM32F042K6U6/497-17346-ND/5268195; Package: 32-UFQFPN; ComponentType: IC microcontroller; Temperature: -40...+85°C; CoreProcessor: Cortex-M0
footprint QFN-32
pins: 0 GND, 1 VDD, 2 PF0/OSC-IN (io), 3 PF1/OSC-OUT (io), 4 NRST (in), 5 VDDA, 6 PA0 (io), 7 PA1 (io), 8 PA2 (io), 9 PA3 (io), 10 PA4 (io), 11 PA5 (io), 12 PA6 (io), 13 PA7 (io), 14 PB0 (io), 15 PB1 (io), 16 PB2 (io), 17 VDDIO, 18 PA8 (io), 19 PA9 (io), 20 PA10 (io), 21 PA11 (io), 22 PA12 (io), 23 PA13/SWDIO (io), 24 PA14/SWCLK (io), 25 PA15 (io), 26 PB3 (io), 27 PB4 (io), 28 PB5 (io), 29 PB6 (io), 30 PB7 (io), 31 PF11 (io), 32 PB8 (io)

## STM32F100Cx
designator DD?
Cortex-M3; Order: *
footprint LQFP-48 (48-Pin Thin Quad Flat Pack 0.5 mm Pitch, IPC High Density)
pins: 1 VBAT (power), 2 PC13-TAMPER-RTC (io), 3 PC14-OSC32_IN (io), 4 PC15-OSC32_OUT (io), 5 OSC_IN (in), 6 OSC_OUT (out), 7 NRST (in), 8 VSSA (power), 9 VDDA (power), 10 PA0-WKUP (io), 11 PA1 (io), 12 PA2 (io), 13 PA3 (io), 14 PA4 (io), 15 PA5 (io), 16 PA6 (io), 17 PA7 (io), 18 PB0 (io), 19 PB1 (io), 20 PB2 (io), 21 PB10 (io), 22 PB11 (io), 23 VSS (power), 24 VDD (power), 25 PB12 (io), 26 PB13 (io), 27 PB14 (io), 28 PB15 (io), 29 PA8 (io), 30 PA9 (io), 31 PA10 (io), 32 PA11 (io), 33 PA12 (io), 34 PA13 (io), 35 VSS (power), 36 VDD (power), 37 PA14 (io), 38 PA15 (io), 39 PB3 (io), 40 PB4 (io), 41 PB5 (io), 42 PB6 (io), 43 PB7 (io), 44 BOOT0 (in), 45 PB8 (io), 46 PB9 (io), 47 VSS (power), 48 VDD (power)

## STM32F100R4(48)
designator DD?, comment STM32F100
Cortex-M3; Order: *
footprint TQFP48_L (48-Pin Thin Quad Flat Pack 0.5 mm Pitch, IPC High Density)
pins: 1 VBAT, 2 PC13-TAMPER-RTC, 3 PC14-OSC32_IN, 4 PC15-OSC32_OUT, 5 OSC_IN, 6 OSC_OUT, 7 NRST, 8 Vssa, 9 Vdda, 10 PA0-WKUP, 11 PA1, 12 PA2, 13 PA3, 14 PA4, 15 PA5, 16 PA6, 17 PA7, 18 PB0, 19 PB1, 20 PB2, 21 PB10, 22 PB11, 23 Vss_1, 24 Vdd_1, 25 PB12, 26 PB13, 27 PB14, 28 PB15, 29 PA8, 30 PA9, 31 PA10, 32 PA11, 33 PA12, 34 PA13, 35 Vss_2, 36 Vdd_2, 37 PA14, 38 PA15, 39 PB3, 40 PB4, 41 PB5, 42 PB6, 43 PB7, 44 BOOT0, 45 PB8, 46 PB9, 47 Vss_3, 48 Vdd_3